# Altium integrated library ST Microcontroller 32-Bit ARM.IntLib: 73 symbols (part 1 of 5)
Pins are listed as number, name and electrical type; pins without a type are passive.

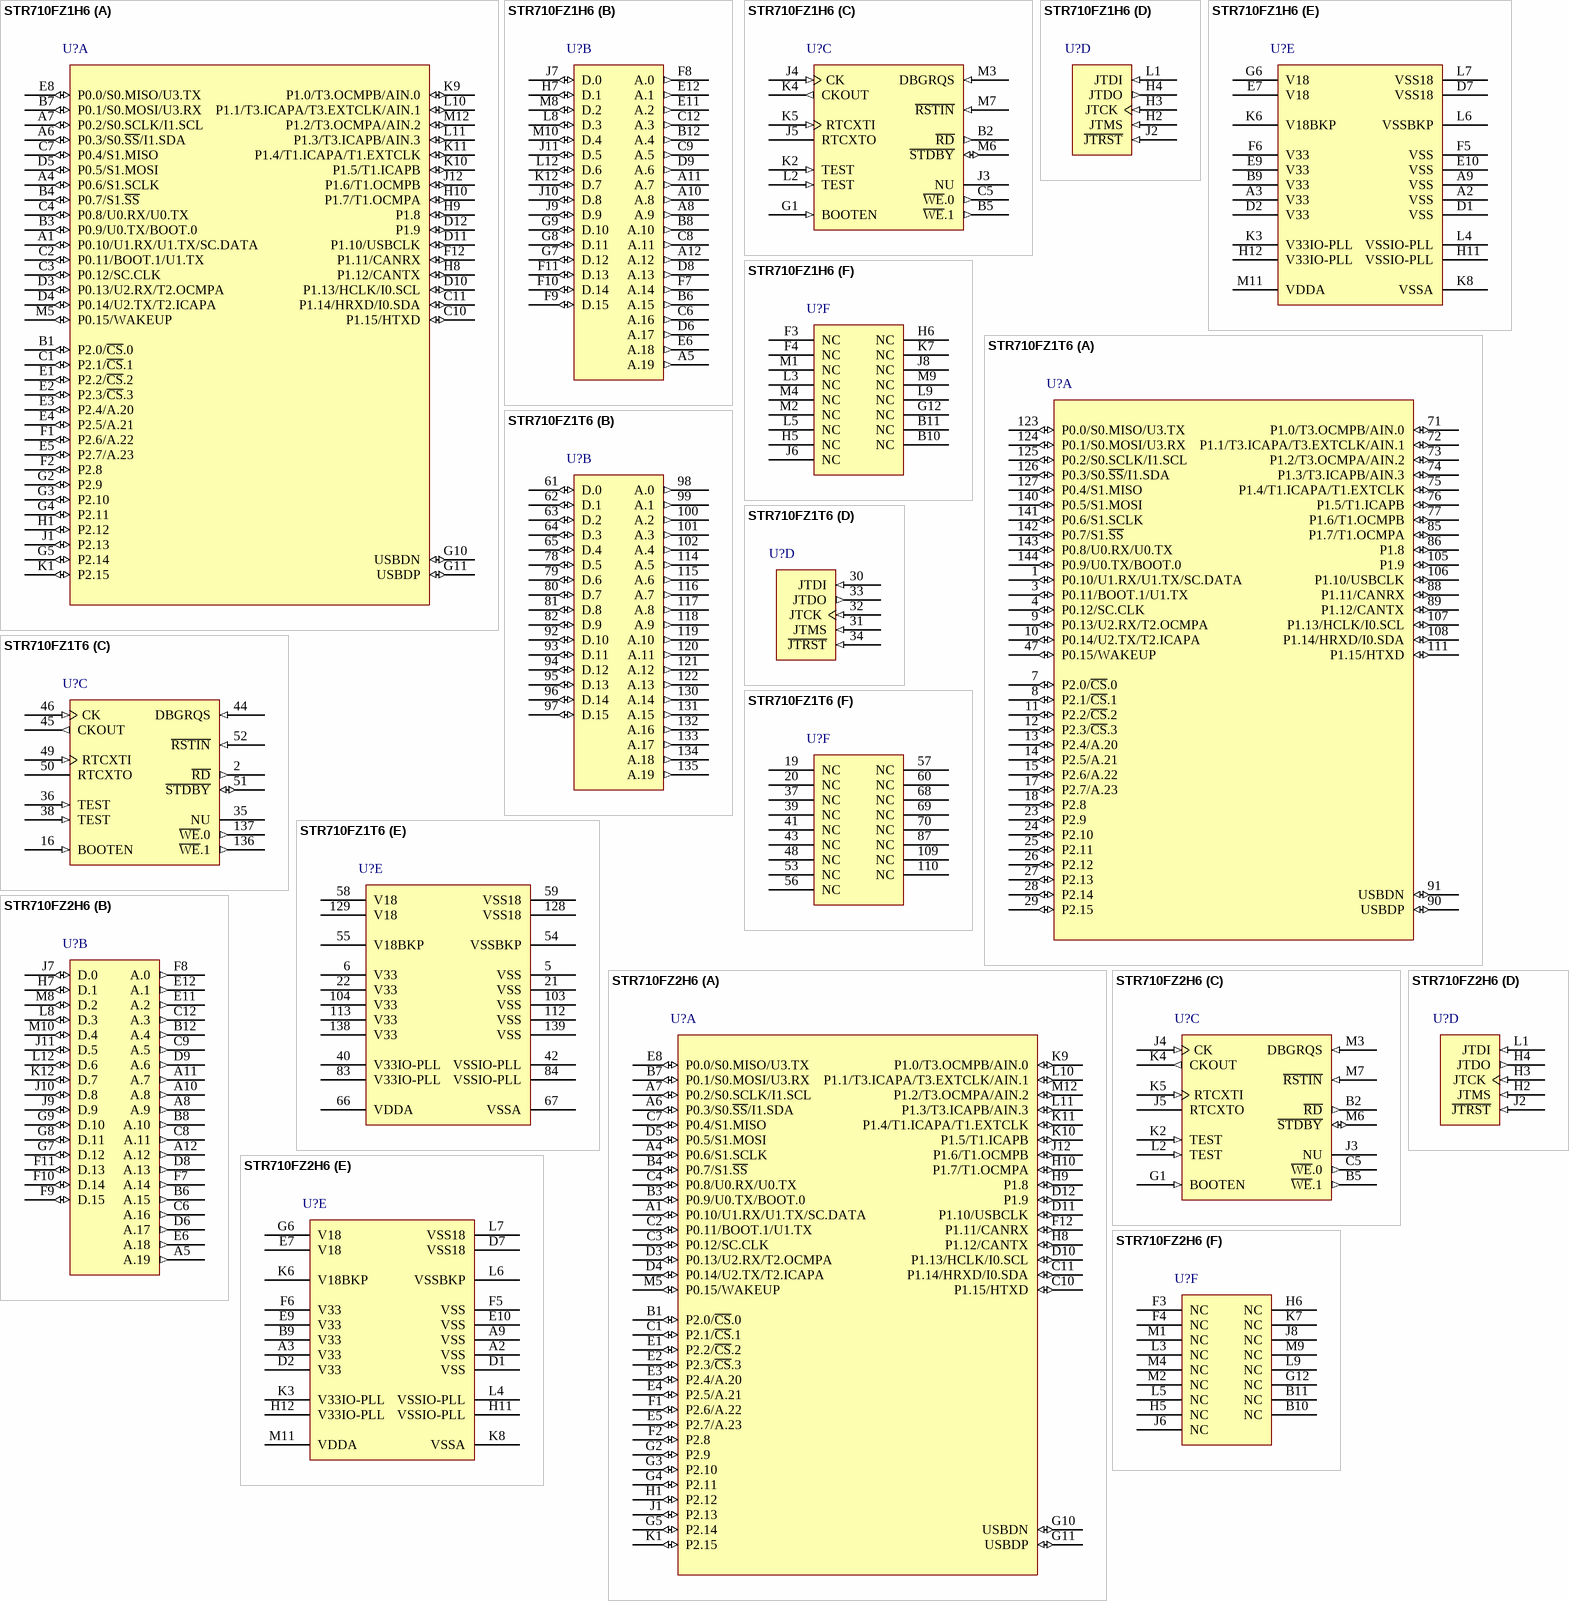
[diagram p0: symbols STR710FZ1H6 to STR710FZ2H6]

## STR710FZ1H6
designator U?
ARM7TDMI-S 32-Bit RISC CPU, 128+16KB Flash Memory, 32KB RAM, 144-ball LFBGA, with EMI, USB & CAN Peripherals; Published: 12-Dec-2006; DatasheetVersion: rev9, Aug-2006; PackageVersion: Sep-2006; PackageReference: LFBGA144; Publisher: Altium Limited; PackageDescription: 144-Ball Low Profile Fine Pitch Ball Grid Array; ComponentLink1Description: Manufacturer Link; ComponentLink1URL: http://www.st.com/; ComponentLink2Description: Datasheet; ComponentLink2URL: http://www.st.com/stonline/books/pdf/docs/10350.pdf
footprint LFBGA144 (BGA, 144-Leads, Body 10x10mm, Pitch 0.8mm)
part A pins: A1 P0.10/U1.RX/U1.TX/SC.DATA (io), A4 P0.6/S1.SCLK (io), A6 P0.3/S0.~{SS}/I1.SDA (io), A7 P0.2/S0.SCLK/I1.SCL (io), B1 P2.0/~{CS}.0 (io), B3 P0.9/U0.TX/BOOT.0 (io), B4 P0.7/S1.~{SS} (io), B7 P0.1/S0.MOSI/U3.RX (io), C1 P2.1/~{CS}.1 (io), C2 P0.11/BOOT.1/U1.TX (io), C3 P0.12/SC.CLK (io), C4 P0.8/U0.RX/U0.TX (io), C7 P0.4/S1.MISO (io), C10 P1.15/HTXD (io), C11 P1.14/HRXD/I0.SDA (io), D3 P0.13/U2.RX/T2.OCMPA (io), D4 P0.14/U2.TX/T2.ICAPA (io), D5 P0.5/S1.MOSI (io), D10 P1.13/HCLK/I0.SCL (io), D11 P1.10/USBCLK (io), D12 P1.9 (io), E1 P2.2/~{CS}.2 (io), E2 P2.3/~{CS}.3 (io), E3 P2.4/A.20 (io), E4 P2.5/A.21 (io), E5 P2.7/A.23 (io), E8 P0.0/S0.MISO/U3.TX (io), F1 P2.6/A.22 (io), F2 P2.8 (io), F12 P1.11/CANRX (io), G2 P2.9 (io), G3 P2.10 (io), G4 P2.11 (io), G5 P2.14 (io), G10 USBDN (io), G11 USBDP (io), H1 P2.12 (io), H8 P1.12/CANTX (io), H9 P1.8 (io), H10 P1.7/T1.OCMPA (io), J1 P2.13 (io), J12 P1.6/T1.OCMPB (io), K1 P2.15 (io), K9 P1.0/T3.OCMPB/AIN.0 (io), K10 P1.5/T1.ICAPB (io), K11 P1.4/T1.ICAPA/T1.EXTCLK (io), L10 P1.1/T3.ICAPA/T3.EXTCLK/AIN.1 (io), L11 P1.3/T3.ICAPB/AIN.3 (io), M5 P0.15/WAKEUP (io), M12 P1.2/T3.OCMPA/AIN.2 (io)
part B pins: A5 A.19 (out), A8 A.9 (out), A10 A.8 (out), A11 A.7 (out), A12 A.12 (out), B6 A.15 (out), B8 A.10 (out), B12 A.4 (out), C6 A.16 (out), C8 A.11 (out), C9 A.5 (out), C12 A.3 (out), D6 A.17 (out), D8 A.13 (out), D9 A.6 (out), E6 A.18 (out), E11 A.2 (out), E12 A.1 (out), F7 A.14 (out), F8 A.0 (out), F9 D.15 (io), F10 D.14 (io), F11 D.13 (io), G7 D.12 (io), G8 D.11 (io), G9 D.10 (io), H7 D.1 (io), J7 D.0 (io), J9 D.9 (io), J10 D.8 (io), J11 D.5 (io), K12 D.7 (io), L8 D.3 (io), L12 D.6 (io), M8 D.2 (io), M10 D.4 (io)
part C pins: B2 ~{RD} (out), B5 ~{WE}.1 (out), C5 ~{WE}.0 (out), G1 BOOTEN (in), J3 NU, J4 CK (in), J5 RTCXTO, K2 TEST (in), K4 CKOUT (out), K5 RTCXTI (in), L2 TEST (in), M3 DBGRQS (in), M6 ~{STDBY} (io), M7 ~{RSTIN} (in)
part D pins: H2 JTMS (in), H3 JTCK (in), H4 JTDO (out), J2 ~{JTRST} (in), L1 JTDI (in)
part E pins: A2 VSS (power), A3 V33 (power), A9 VSS (power), B9 V33 (power), D1 VSS (power), D2 V33 (power), D7 VSS18 (power), E7 V18 (power), E9 V33 (power), E10 VSS (power), F5 VSS (power), F6 V33 (power), G6 V18 (power), H11 VSSIO-PLL (power), H12 V33IO-PLL (power), K3 V33IO-PLL (power), K6 V18BKP (power), K8 VSSA (power), L4 VSSIO-PLL (power), L6 VSSBKP (power), L7 VSS18 (power), M11 VDDA (power)
part F pins: B10 NC, B11 NC, F3 NC, F4 NC, G12 NC, H5 NC, H6 NC, J6 NC, J8 NC, K7 NC, L3 NC, L5 NC, L9 NC, M1 NC, M2 NC, M4 NC, M9 NC

## STR710FZ1T6
designator U?
ARM7TDMI-S 32-Bit RISC CPU, 128+16KB Flash Memory, 32KB RAM, 144-pin TQFP, with EMI, USB & CAN Peripherals; Published: 12-Dec-2006; DatasheetVersion: rev9, Aug-2006; PackageVersion: Mar-2003; PackageReference: TQFP144; Publisher: Altium Limited; PackageDescription: 144-Pin Thin Quad Flat Pack 0.5 mm Pitch; ComponentLink1Description: Manufacturer Link; ComponentLink1URL: http://www.st.com/; ComponentLink2Description: Datasheet; ComponentLink2URL: http://www.st.com/stonline/books/pdf/docs/10350.pdf
footprint TQFP144_N (Thin QFP, 144-Leads, Body 20x20mm, Pitch 0.5mm, IPC Medium Density)
footprint TQFP144_L (Thin QFP, 144-Leads, Body 20x20mm, Pitch 0.5mm, IPC High Density)
footprint TQFP144_M (Thin QFP, 144-Leads, Body 20x20mm, Pitch 0.5mm, IPC Low Density)
part A pins: 1 P0.10/U1.RX/U1.TX/SC.DATA (io), 3 P0.11/BOOT.1/U1.TX (io), 4 P0.12/SC.CLK (io), 7 P2.0/~{CS}.0 (io), 8 P2.1/~{CS}.1 (io), 9 P0.13/U2.RX/T2.OCMPA (io), 10 P0.14/U2.TX/T2.ICAPA (io), 11 P2.2/~{CS}.2 (io), 12 P2.3/~{CS}.3 (io), 13 P2.4/A.20 (io), 14 P2.5/A.21 (io), 15 P2.6/A.22 (io), 17 P2.7/A.23 (io), 18 P2.8 (io), 23 P2.9 (io), 24 P2.10 (io), 25 P2.11 (io), 26 P2.12 (io), 27 P2.13 (io), 28 P2.14 (io), 29 P2.15 (io), 47 P0.15/WAKEUP (io), 71 P1.0/T3.OCMPB/AIN.0 (io), 72 P1.1/T3.ICAPA/T3.EXTCLK/AIN.1 (io), 73 P1.2/T3.OCMPA/AIN.2 (io), 74 P1.3/T3.ICAPB/AIN.3 (io), 75 P1.4/T1.ICAPA/T1.EXTCLK (io), 76 P1.5/T1.ICAPB (io), 77 P1.6/T1.OCMPB (io), 85 P1.7/T1.OCMPA (io), 86 P1.8 (io), 88 P1.11/CANRX (io), 89 P1.12/CANTX (io), 90 USBDP (io), 91 USBDN (io), 105 P1.9 (io), 106 P1.10/USBCLK (io), 107 P1.13/HCLK/I0.SCL (io), 108 P1.14/HRXD/I0.SDA (io), 111 P1.15/HTXD (io), 123 P0.0/S0.MISO/U3.TX (io), 124 P0.1/S0.MOSI/U3.RX (io), 125 P0.2/S0.SCLK/I1.SCL (io), 126 P0.3/S0.~{SS}/I1.SDA (io), 127 P0.4/S1.MISO (io), 140 P0.5/S1.MOSI (io), 141 P0.6/S1.SCLK (io), 142 P0.7/S1.~{SS} (io), 143 P0.8/U0.RX/U0.TX (io), 144 P0.9/U0.TX/BOOT.0 (io)
part B pins: 61 D.0 (io), 62 D.1 (io), 63 D.2 (io), 64 D.3 (io), 65 D.4 (io), 78 D.5 (io), 79 D.6 (io), 80 D.7 (io), 81 D.8 (io), 82 D.9 (io), 92 D.10 (io), 93 D.11 (io), 94 D.12 (io), 95 D.13 (io), 96 D.14 (io), 97 D.15 (io), 98 A.0 (out), 99 A.1 (out), 100 A.2 (out), 101 A.3 (out), 102 A.4 (out), 114 A.5 (out), 115 A.6 (out), 116 A.7 (out), 117 A.8 (out), 118 A.9 (out), 119 A.10 (out), 120 A.11 (out), 121 A.12 (out), 122 A.13 (out), 130 A.14 (out), 131 A.15 (out), 132 A.16 (out), 133 A.17 (out), 134 A.18 (out), 135 A.19 (out)
part C pins: 2 ~{RD} (out), 16 BOOTEN (in), 35 NU, 36 TEST (in), 38 TEST (in), 44 DBGRQS (in), 45 CKOUT (out), 46 CK (in), 49 RTCXTI (in), 50 RTCXTO, 51 ~{STDBY} (io), 52 ~{RSTIN} (in), 136 ~{WE}.1 (out), 137 ~{WE}.0 (out)
part D pins: 30 JTDI (in), 31 JTMS (in), 32 JTCK (in), 33 JTDO (out), 34 ~{JTRST} (in)
part E pins: 5 VSS (power), 6 V33 (power), 21 VSS (power), 22 V33 (power), 40 V33IO-PLL (power), 42 VSSIO-PLL (power), 54 VSSBKP (power), 55 V18BKP (power), 58 V18 (power), 59 VSS18 (power), 66 VDDA (power), 67 VSSA (power), 83 V33IO-PLL (power), 84 VSSIO-PLL (power), 103 VSS (power), 104 V33 (power), 112 VSS (power), 113 V33 (power), 128 VSS18 (power), 129 V18 (power), 138 V33 (power), 139 VSS (power)
part F pins: 19 NC, 20 NC, 37 NC, 39 NC, 41 NC, 43 NC, 48 NC, 53 NC, 56 NC, 57 NC, 60 NC, 68 NC, 69 NC, 70 NC, 87 NC, 109 NC, 110 NC

## STR710FZ2H6
designator U?
ARM7TDMI-S 32-Bit RISC CPU, 256+16KB Flash Memory, 64KB RAM, 144-ball LFBGA, with EMI, USB & CAN Peripherals; Published: 12-Dec-2006; DatasheetVersion: rev9, Aug-2006; PackageVersion: Sep-2006; PackageReference: LFBGA144; Publisher: Altium Limited; PackageDescription: 144-Ball Low Profile Fine Pitch Ball Grid Array; ComponentLink1Description: Manufacturer Link; ComponentLink1URL: http://www.st.com/; ComponentLink2Description: Datasheet; ComponentLink2URL: http://www.st.com/stonline/books/pdf/docs/10350.pdf
footprint LFBGA144 (BGA, 144-Leads, Body 10x10mm, Pitch 0.8mm)
part A pins: A1 P0.10/U1.RX/U1.TX/SC.DATA (io), A4 P0.6/S1.SCLK (io), A6 P0.3/S0.~{SS}/I1.SDA (io), A7 P0.2/S0.SCLK/I1.SCL (io), B1 P2.0/~{CS}.0 (io), B3 P0.9/U0.TX/BOOT.0 (io), B4 P0.7/S1.~{SS} (io), B7 P0.1/S0.MOSI/U3.RX (io), C1 P2.1/~{CS}.1 (io), C2 P0.11/BOOT.1/U1.TX (io), C3 P0.12/SC.CLK (io), C4 P0.8/U0.RX/U0.TX (io), C7 P0.4/S1.MISO (io), C10 P1.15/HTXD (io), C11 P1.14/HRXD/I0.SDA (io), D3 P0.13/U2.RX/T2.OCMPA (io), D4 P0.14/U2.TX/T2.ICAPA (io), D5 P0.5/S1.MOSI (io), D10 P1.13/HCLK/I0.SCL (io), D11 P1.10/USBCLK (io), D12 P1.9 (io), E1 P2.2/~{CS}.2 (io), E2 P2.3/~{CS}.3 (io), E3 P2.4/A.20 (io), E4 P2.5/A.21 (io), E5 P2.7/A.23 (io), E8 P0.0/S0.MISO/U3.TX (io), F1 P2.6/A.22 (io), F2 P2.8 (io), F12 P1.11/CANRX (io), G2 P2.9 (io), G3 P2.10 (io), G4 P2.11 (io), G5 P2.14 (io), G10 USBDN (io), G11 USBDP (io), H1 P2.12 (io), H8 P1.12/CANTX (io), H9 P1.8 (io), H10 P1.7/T1.OCMPA (io), J1 P2.13 (io), J12 P1.6/T1.OCMPB (io), K1 P2.15 (io), K9 P1.0/T3.OCMPB/AIN.0 (io), K10 P1.5/T1.ICAPB (io), K11 P1.4/T1.ICAPA/T1.EXTCLK (io), L10 P1.1/T3.ICAPA/T3.EXTCLK/AIN.1 (io), L11 P1.3/T3.ICAPB/AIN.3 (io), M5 P0.15/WAKEUP (io), M12 P1.2/T3.OCMPA/AIN.2 (io)
part B pins: A5 A.19 (out), A8 A.9 (out), A10 A.8 (out), A11 A.7 (out), A12 A.12 (out), B6 A.15 (out), B8 A.10 (out), B12 A.4 (out), C6 A.16 (out), C8 A.11 (out), C9 A.5 (out), C12 A.3 (out), D6 A.17 (out), D8 A.13 (out), D9 A.6 (out), E6 A.18 (out), E11 A.2 (out), E12 A.1 (out), F7 A.14 (out), F8 A.0 (out), F9 D.15 (io), F10 D.14 (io), F11 D.13 (io), G7 D.12 (io), G8 D.11 (io), G9 D.10 (io), H7 D.1 (io), J7 D.0 (io), J9 D.9 (io), J10 D.8 (io), J11 D.5 (io), K12 D.7 (io), L8 D.3 (io), L12 D.6 (io), M8 D.2 (io), M10 D.4 (io)
part C pins: B2 ~{RD} (out), B5 ~{WE}.1 (out), C5 ~{WE}.0 (out), G1 BOOTEN (in), J3 NU, J4 CK (in), J5 RTCXTO, K2 TEST (in), K4 CKOUT (out), K5 RTCXTI (in), L2 TEST (in), M3 DBGRQS (in), M6 ~{STDBY} (io), M7 ~{RSTIN} (in)
part D pins: H2 JTMS (in), H3 JTCK (in), H4 JTDO (out), J2 ~{JTRST} (in), L1 JTDI (in)
part E pins: A2 VSS (power), A3 V33 (power), A9 VSS (power), B9 V33 (power), D1 VSS (power), D2 V33 (power), D7 VSS18 (power), E7 V18 (power), E9 V33 (power), E10 VSS (power), F5 VSS (power), F6 V33 (power), G6 V18 (power), H11 VSSIO-PLL (power), H12 V33IO-PLL (power), K3 V33IO-PLL (power), K6 V18BKP (power), K8 VSSA (power), L4 VSSIO-PLL (power), L6 VSSBKP (power), L7 VSS18 (power), M11 VDDA (power)
part F pins: B10 NC, B11 NC, F3 NC, F4 NC, G12 NC, H5 NC, H6 NC, J6 NC, J8 NC, K7 NC, L3 NC, L5 NC, L9 NC, M1 NC, M2 NC, M4 NC, M9 NC

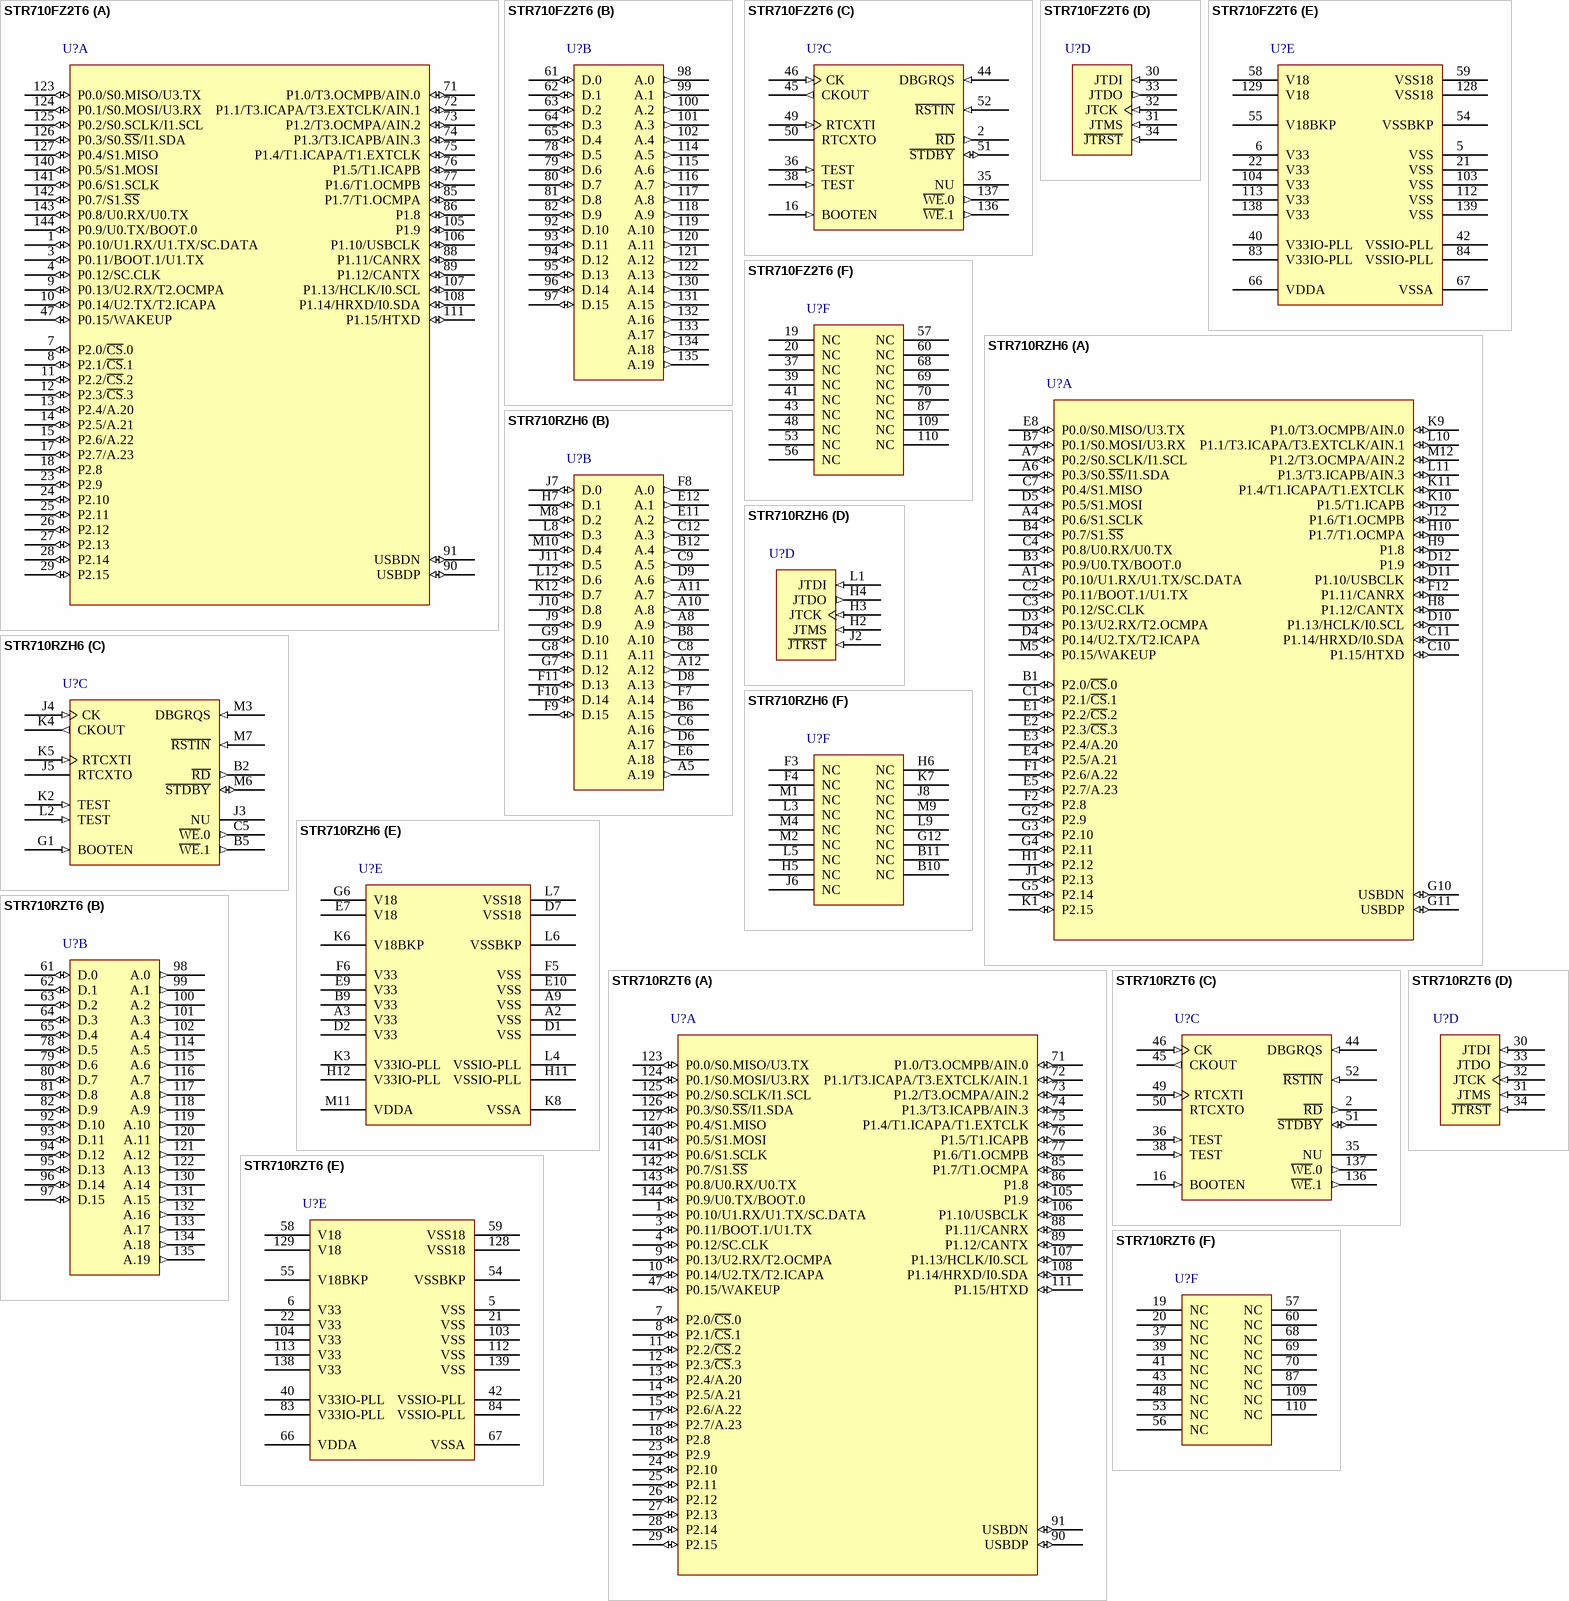
[diagram p1: symbols STR710FZ2T6 to STR710RZT6]

## STR710FZ2T6
designator U?
ARM7TDMI-S 32-Bit RISC CPU, 256+16KB Flash Memory, 64KB RAM, 144-pin TQFP, with EMI, USB & CAN Peripherals; Published: 12-Dec-2006; DatasheetVersion: rev9, Aug-2006; PackageVersion: Mar-2003; PackageReference: TQFP144; Publisher: Altium Limited; PackageDescription: 144-Pin Thin Quad Flat Pack 0.5 mm Pitch; ComponentLink1Description: Manufacturer Link; ComponentLink1URL: http://www.st.com/; ComponentLink2Description: Datasheet; ComponentLink2URL: http://www.st.com/stonline/books/pdf/docs/10350.pdf
footprint TQFP144_N (Thin QFP, 144-Leads, Body 20x20mm, Pitch 0.5mm, IPC Medium Density)
footprint TQFP144_L (Thin QFP, 144-Leads, Body 20x20mm, Pitch 0.5mm, IPC High Density)
footprint TQFP144_M (Thin QFP, 144-Leads, Body 20x20mm, Pitch 0.5mm, IPC Low Density)
part A pins: 1 P0.10/U1.RX/U1.TX/SC.DATA (io), 3 P0.11/BOOT.1/U1.TX (io), 4 P0.12/SC.CLK (io), 7 P2.0/~{CS}.0 (io), 8 P2.1/~{CS}.1 (io), 9 P0.13/U2.RX/T2.OCMPA (io), 10 P0.14/U2.TX/T2.ICAPA (io), 11 P2.2/~{CS}.2 (io), 12 P2.3/~{CS}.3 (io), 13 P2.4/A.20 (io), 14 P2.5/A.21 (io), 15 P2.6/A.22 (io), 17 P2.7/A.23 (io), 18 P2.8 (io), 23 P2.9 (io), 24 P2.10 (io), 25 P2.11 (io), 26 P2.12 (io), 27 P2.13 (io), 28 P2.14 (io), 29 P2.15 (io), 47 P0.15/WAKEUP (io), 71 P1.0/T3.OCMPB/AIN.0 (io), 72 P1.1/T3.ICAPA/T3.EXTCLK/AIN.1 (io), 73 P1.2/T3.OCMPA/AIN.2 (io), 74 P1.3/T3.ICAPB/AIN.3 (io), 75 P1.4/T1.ICAPA/T1.EXTCLK (io), 76 P1.5/T1.ICAPB (io), 77 P1.6/T1.OCMPB (io), 85 P1.7/T1.OCMPA (io), 86 P1.8 (io), 88 P1.11/CANRX (io), 89 P1.12/CANTX (io), 90 USBDP (io), 91 USBDN (io), 105 P1.9 (io), 106 P1.10/USBCLK (io), 107 P1.13/HCLK/I0.SCL (io), 108 P1.14/HRXD/I0.SDA (io), 111 P1.15/HTXD (io), 123 P0.0/S0.MISO/U3.TX (io), 124 P0.1/S0.MOSI/U3.RX (io), 125 P0.2/S0.SCLK/I1.SCL (io), 126 P0.3/S0.~{SS}/I1.SDA (io), 127 P0.4/S1.MISO (io), 140 P0.5/S1.MOSI (io), 141 P0.6/S1.SCLK (io), 142 P0.7/S1.~{SS} (io), 143 P0.8/U0.RX/U0.TX (io), 144 P0.9/U0.TX/BOOT.0 (io)
part B pins: 61 D.0 (io), 62 D.1 (io), 63 D.2 (io), 64 D.3 (io), 65 D.4 (io), 78 D.5 (io), 79 D.6 (io), 80 D.7 (io), 81 D.8 (io), 82 D.9 (io), 92 D.10 (io), 93 D.11 (io), 94 D.12 (io), 95 D.13 (io), 96 D.14 (io), 97 D.15 (io), 98 A.0 (out), 99 A.1 (out), 100 A.2 (out), 101 A.3 (out), 102 A.4 (out), 114 A.5 (out), 115 A.6 (out), 116 A.7 (out), 117 A.8 (out), 118 A.9 (out), 119 A.10 (out), 120 A.11 (out), 121 A.12 (out), 122 A.13 (out), 130 A.14 (out), 131 A.15 (out), 132 A.16 (out), 133 A.17 (out), 134 A.18 (out), 135 A.19 (out)
part C pins: 2 ~{RD} (out), 16 BOOTEN (in), 35 NU, 36 TEST (in), 38 TEST (in), 44 DBGRQS (in), 45 CKOUT (out), 46 CK (in), 49 RTCXTI (in), 50 RTCXTO, 51 ~{STDBY} (io), 52 ~{RSTIN} (in), 136 ~{WE}.1 (out), 137 ~{WE}.0 (out)
part D pins: 30 JTDI (in), 31 JTMS (in), 32 JTCK (in), 33 JTDO (out), 34 ~{JTRST} (in)
part E pins: 5 VSS (power), 6 V33 (power), 21 VSS (power), 22 V33 (power), 40 V33IO-PLL (power), 42 VSSIO-PLL (power), 54 VSSBKP (power), 55 V18BKP (power), 58 V18 (power), 59 VSS18 (power), 66 VDDA (power), 67 VSSA (power), 83 V33IO-PLL (power), 84 VSSIO-PLL (power), 103 VSS (power), 104 V33 (power), 112 VSS (power), 113 V33 (power), 128 VSS18 (power), 129 V18 (power), 138 V33 (power), 139 VSS (power)
part F pins: 19 NC, 20 NC, 37 NC, 39 NC, 41 NC, 43 NC, 48 NC, 53 NC, 56 NC, 57 NC, 60 NC, 68 NC, 69 NC, 70 NC, 87 NC, 109 NC, 110 NC

## STR710RZH6
designator U?
ARM7TDMI-S 32-Bit RISC CPU, 64KB RAM, 144-ball LFBGA, with EMI, USB & CAN Peripherals; Published: 12-Dec-2006; DatasheetVersion: rev9, Aug-2006; PackageVersion: Sep-2006; PackageReference: LFBGA144; Publisher: Altium Limited; PackageDescription: 144-Ball Low Profile Fine Pitch Ball Grid Array; ComponentLink1Description: Manufacturer Link; ComponentLink1URL: http://www.st.com/; ComponentLink2Description: Datasheet; ComponentLink2URL: http://www.st.com/stonline/books/pdf/docs/10350.pdf
footprint LFBGA144 (BGA, 144-Leads, Body 10x10mm, Pitch 0.8mm)
part A pins: A1 P0.10/U1.RX/U1.TX/SC.DATA (io), A4 P0.6/S1.SCLK (io), A6 P0.3/S0.~{SS}/I1.SDA (io), A7 P0.2/S0.SCLK/I1.SCL (io), B1 P2.0/~{CS}.0 (io), B3 P0.9/U0.TX/BOOT.0 (io), B4 P0.7/S1.~{SS} (io), B7 P0.1/S0.MOSI/U3.RX (io), C1 P2.1/~{CS}.1 (io), C2 P0.11/BOOT.1/U1.TX (io), C3 P0.12/SC.CLK (io), C4 P0.8/U0.RX/U0.TX (io), C7 P0.4/S1.MISO (io), C10 P1.15/HTXD (io), C11 P1.14/HRXD/I0.SDA (io), D3 P0.13/U2.RX/T2.OCMPA (io), D4 P0.14/U2.TX/T2.ICAPA (io), D5 P0.5/S1.MOSI (io), D10 P1.13/HCLK/I0.SCL (io), D11 P1.10/USBCLK (io), D12 P1.9 (io), E1 P2.2/~{CS}.2 (io), E2 P2.3/~{CS}.3 (io), E3 P2.4/A.20 (io), E4 P2.5/A.21 (io), E5 P2.7/A.23 (io), E8 P0.0/S0.MISO/U3.TX (io), F1 P2.6/A.22 (io), F2 P2.8 (io), F12 P1.11/CANRX (io), G2 P2.9 (io), G3 P2.10 (io), G4 P2.11 (io), G5 P2.14 (io), G10 USBDN (io), G11 USBDP (io), H1 P2.12 (io), H8 P1.12/CANTX (io), H9 P1.8 (io), H10 P1.7/T1.OCMPA (io), J1 P2.13 (io), J12 P1.6/T1.OCMPB (io), K1 P2.15 (io), K9 P1.0/T3.OCMPB/AIN.0 (io), K10 P1.5/T1.ICAPB (io), K11 P1.4/T1.ICAPA/T1.EXTCLK (io), L10 P1.1/T3.ICAPA/T3.EXTCLK/AIN.1 (io), L11 P1.3/T3.ICAPB/AIN.3 (io), M5 P0.15/WAKEUP (io), M12 P1.2/T3.OCMPA/AIN.2 (io)
part B pins: A5 A.19 (out), A8 A.9 (out), A10 A.8 (out), A11 A.7 (out), A12 A.12 (out), B6 A.15 (out), B8 A.10 (out), B12 A.4 (out), C6 A.16 (out), C8 A.11 (out), C9 A.5 (out), C12 A.3 (out), D6 A.17 (out), D8 A.13 (out), D9 A.6 (out), E6 A.18 (out), E11 A.2 (out), E12 A.1 (out), F7 A.14 (out), F8 A.0 (out), F9 D.15 (io), F10 D.14 (io), F11 D.13 (io), G7 D.12 (io), G8 D.11 (io), G9 D.10 (io), H7 D.1 (io), J7 D.0 (io), J9 D.9 (io), J10 D.8 (io), J11 D.5 (io), K12 D.7 (io), L8 D.3 (io), L12 D.6 (io), M8 D.2 (io), M10 D.4 (io)
part C pins: B2 ~{RD} (out), B5 ~{WE}.1 (out), C5 ~{WE}.0 (out), G1 BOOTEN (in), J3 NU, J4 CK (in), J5 RTCXTO, K2 TEST (in), K4 CKOUT (out), K5 RTCXTI (in), L2 TEST (in), M3 DBGRQS (in), M6 ~{STDBY} (io), M7 ~{RSTIN} (in)
part D pins: H2 JTMS (in), H3 JTCK (in), H4 JTDO (out), J2 ~{JTRST} (in), L1 JTDI (in)
part E pins: A2 VSS (power), A3 V33 (power), A9 VSS (power), B9 V33 (power), D1 VSS (power), D2 V33 (power), D7 VSS18 (power), E7 V18 (power), E9 V33 (power), E10 VSS (power), F5 VSS (power), F6 V33 (power), G6 V18 (power), H11 VSSIO-PLL (power), H12 V33IO-PLL (power), K3 V33IO-PLL (power), K6 V18BKP (power), K8 VSSA (power), L4 VSSIO-PLL (power), L6 VSSBKP (power), L7 VSS18 (power), M11 VDDA (power)
part F pins: B10 NC, B11 NC, F3 NC, F4 NC, G12 NC, H5 NC, H6 NC, J6 NC, J8 NC, K7 NC, L3 NC, L5 NC, L9 NC, M1 NC, M2 NC, M4 NC, M9 NC

## STR710RZT6
designator U?
ARM7TDMI-S 32-Bit RISC CPU, 64KB RAM, 144-pin TQFP, with EMI, USB & CAN Peripherals; Published: 12-Dec-2006; DatasheetVersion: rev9, Aug-2006; PackageVersion: Mar-2003; PackageReference: TQFP144; Publisher: Altium Limited; PackageDescription: 144-Pin Thin Quad Flat Pack 0.5 mm Pitch; ComponentLink1Description: Manufacturer Link; ComponentLink1URL: http://www.st.com/; ComponentLink2Description: Datasheet; ComponentLink2URL: http://www.st.com/stonline/books/pdf/docs/10350.pdf
footprint TQFP144_N (Thin QFP, 144-Leads, Body 20x20mm, Pitch 0.5mm, IPC Medium Density)
footprint TQFP144_L (Thin QFP, 144-Leads, Body 20x20mm, Pitch 0.5mm, IPC High Density)
footprint TQFP144_M (Thin QFP, 144-Leads, Body 20x20mm, Pitch 0.5mm, IPC Low Density)
part A pins: 1 P0.10/U1.RX/U1.TX/SC.DATA (io), 3 P0.11/BOOT.1/U1.TX (io), 4 P0.12/SC.CLK (io), 7 P2.0/~{CS}.0 (io), 8 P2.1/~{CS}.1 (io), 9 P0.13/U2.RX/T2.OCMPA (io), 10 P0.14/U2.TX/T2.ICAPA (io), 11 P2.2/~{CS}.2 (io), 12 P2.3/~{CS}.3 (io), 13 P2.4/A.20 (io), 14 P2.5/A.21 (io), 15 P2.6/A.22 (io), 17 P2.7/A.23 (io), 18 P2.8 (io), 23 P2.9 (io), 24 P2.10 (io), 25 P2.11 (io), 26 P2.12 (io), 27 P2.13 (io), 28 P2.14 (io), 29 P2.15 (io), 47 P0.15/WAKEUP (io), 71 P1.0/T3.OCMPB/AIN.0 (io), 72 P1.1/T3.ICAPA/T3.EXTCLK/AIN.1 (io), 73 P1.2/T3.OCMPA/AIN.2 (io), 74 P1.3/T3.ICAPB/AIN.3 (io), 75 P1.4/T1.ICAPA/T1.EXTCLK (io), 76 P1.5/T1.ICAPB (io), 77 P1.6/T1.OCMPB (io), 85 P1.7/T1.OCMPA (io), 86 P1.8 (io), 88 P1.11/CANRX (io), 89 P1.12/CANTX (io), 90 USBDP (io), 91 USBDN (io), 105 P1.9 (io), 106 P1.10/USBCLK (io), 107 P1.13/HCLK/I0.SCL (io), 108 P1.14/HRXD/I0.SDA (io), 111 P1.15/HTXD (io), 123 P0.0/S0.MISO/U3.TX (io), 124 P0.1/S0.MOSI/U3.RX (io), 125 P0.2/S0.SCLK/I1.SCL (io), 126 P0.3/S0.~{SS}/I1.SDA (io), 127 P0.4/S1.MISO (io), 140 P0.5/S1.MOSI (io), 141 P0.6/S1.SCLK (io), 142 P0.7/S1.~{SS} (io), 143 P0.8/U0.RX/U0.TX (io), 144 P0.9/U0.TX/BOOT.0 (io)
part B pins: 61 D.0 (io), 62 D.1 (io), 63 D.2 (io), 64 D.3 (io), 65 D.4 (io), 78 D.5 (io), 79 D.6 (io), 80 D.7 (io), 81 D.8 (io), 82 D.9 (io), 92 D.10 (io), 93 D.11 (io), 94 D.12 (io), 95 D.13 (io), 96 D.14 (io), 97 D.15 (io), 98 A.0 (out), 99 A.1 (out), 100 A.2 (out), 101 A.3 (out), 102 A.4 (out), 114 A.5 (out), 115 A.6 (out), 116 A.7 (out), 117 A.8 (out), 118 A.9 (out), 119 A.10 (out), 120 A.11 (out), 121 A.12 (out), 122 A.13 (out), 130 A.14 (out), 131 A.15 (out), 132 A.16 (out), 133 A.17 (out), 134 A.18 (out), 135 A.19 (out)
part C pins: 2 ~{RD} (out), 16 BOOTEN (in), 35 NU, 36 TEST (in), 38 TEST (in), 44 DBGRQS (in), 45 CKOUT (out), 46 CK (in), 49 RTCXTI (in), 50 RTCXTO, 51 ~{STDBY} (io), 52 ~{RSTIN} (in), 136 ~{WE}.1 (out), 137 ~{WE}.0 (out)
part D pins: 30 JTDI (in), 31 JTMS (in), 32 JTCK (in), 33 JTDO (out), 34 ~{JTRST} (in)
part E pins: 5 VSS (power), 6 V33 (power), 21 VSS (power), 22 V33 (power), 40 V33IO-PLL (power), 42 VSSIO-PLL (power), 54 VSSBKP (power), 55 V18BKP (power), 58 V18 (power), 59 VSS18 (power), 66 VDDA (power), 67 VSSA (power), 83 V33IO-PLL (power), 84 VSSIO-PLL (power), 103 VSS (power), 104 V33 (power), 112 VSS (power), 113 V33 (power), 128 VSS18 (power), 129 V18 (power), 138 V33 (power), 139 VSS (power)
part F pins: 19 NC, 20 NC, 37 NC, 39 NC, 41 NC, 43 NC, 48 NC, 53 NC, 56 NC, 57 NC, 60 NC, 68 NC, 69 NC, 70 NC, 87 NC, 109 NC, 110 NC

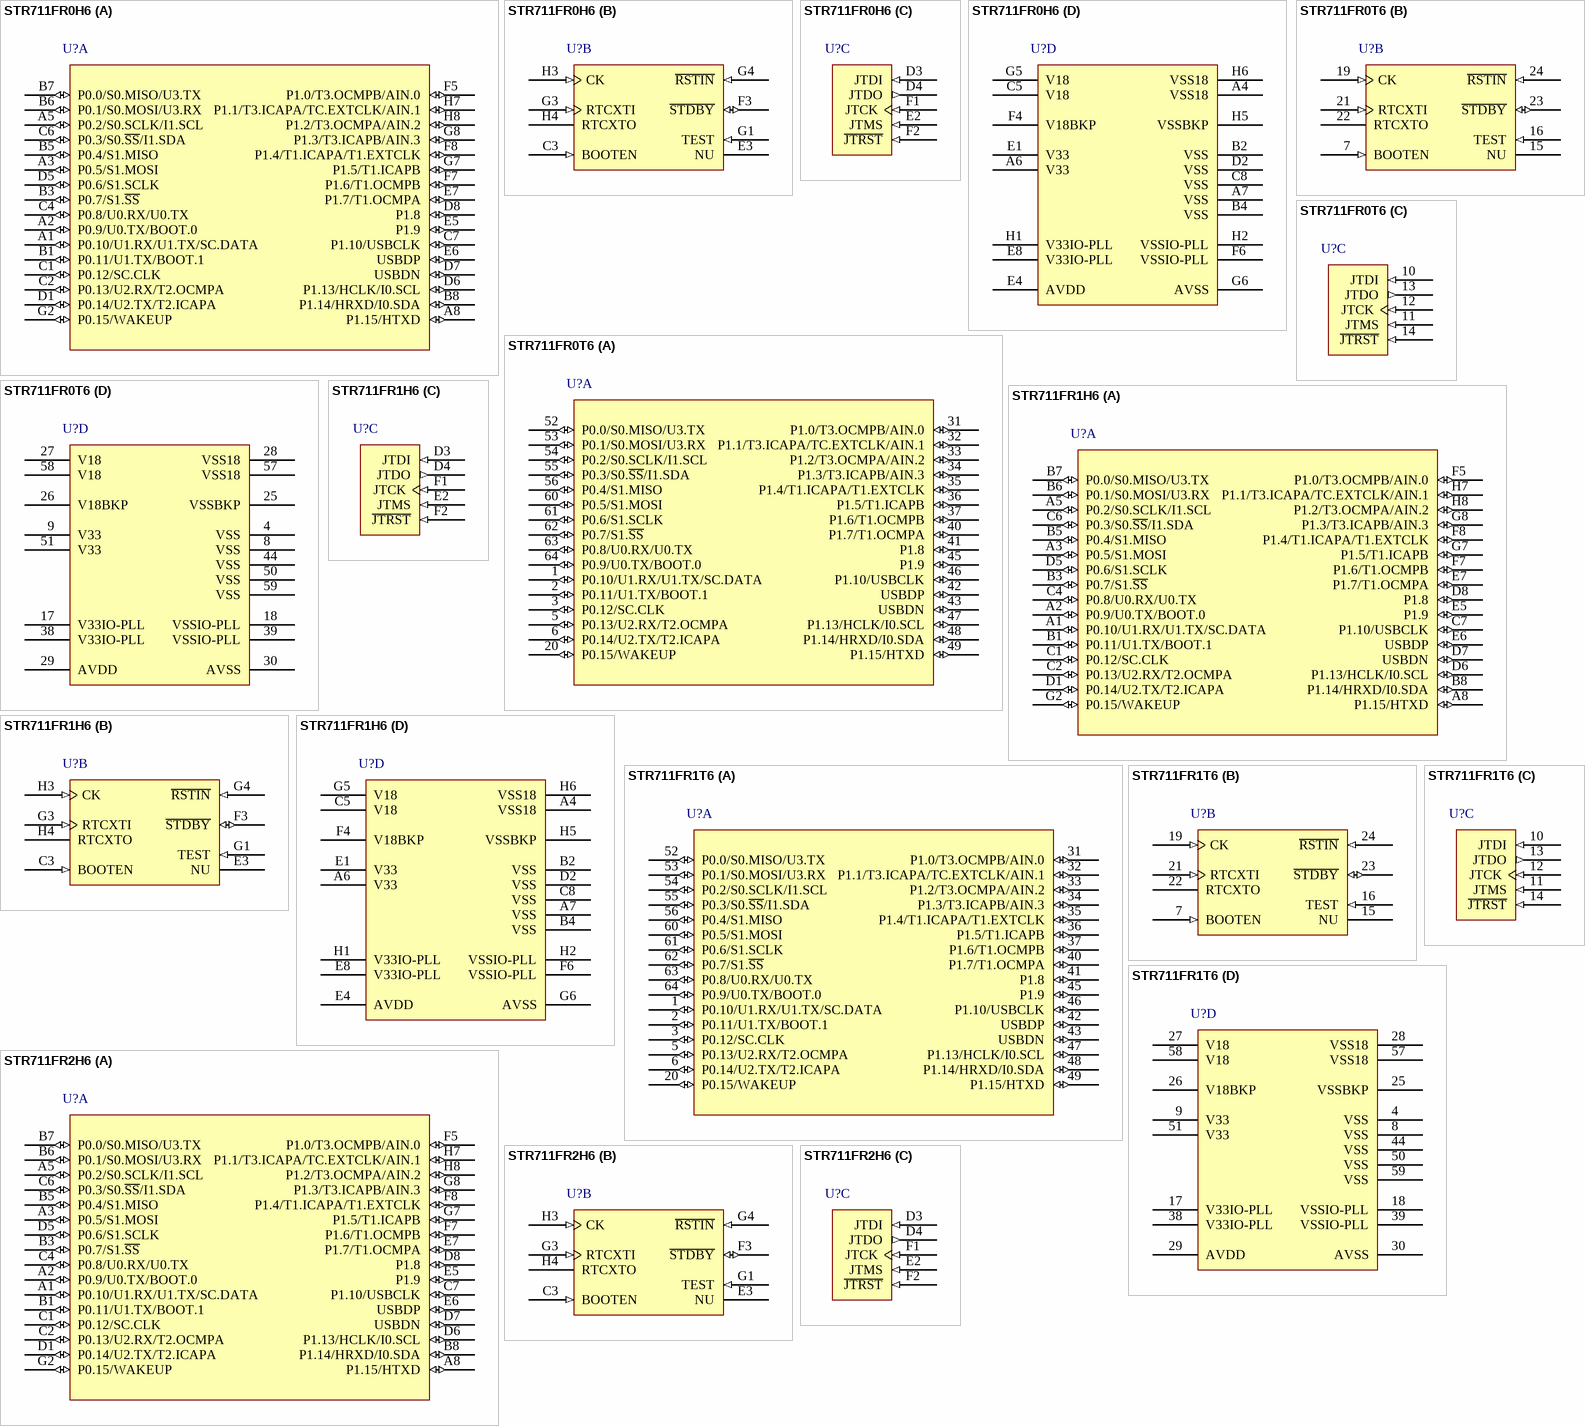
[diagram p2: symbols STR711FR0H6 to STR711FR2H6]

## STR711FR0H6
designator U?
ARM7TDMI-S 32-Bit RISC CPU, 64+16KB Flash Memory, 16KB RAM, 64-ball LFBGA, with USB Peripherals; Published: 12-Dec-2006; DatasheetVersion: rev9, Aug-2006; PackageVersion: Sep-2006; PackageReference: LFBGA64; Publisher: Altium Limited; PackageDescription: 64-Ball Low Profile Fine Pitch Ball Grid Array; ComponentLink1Description: Manufacturer Link; ComponentLink1URL: http://www.st.com/; ComponentLink2Description: Datasheet; ComponentLink2URL: http://www.st.com/stonline/books/pdf/docs/10350.pdf
footprint LFBGA64 (BGA, 64-Leads, Body 8x8mm, Pitch 0.8mm)
part A pins: A1 P0.10/U1.RX/U1.TX/SC.DATA (io), A2 P0.9/U0.TX/BOOT.0 (io), A3 P0.5/S1.MOSI (io), A5 P0.2/S0.SCLK/I1.SCL (io), A8 P1.15/HTXD (io), B1 P0.11/U1.TX/BOOT.1 (io), B3 P0.7/S1.~{SS} (io), B5 P0.4/S1.MISO (io), B6 P0.1/S0.MOSI/U3.RX (io), B7 P0.0/S0.MISO/U3.TX (io), B8 P1.14/HRXD/I0.SDA (io), C1 P0.12/SC.CLK (io), C2 P0.13/U2.RX/T2.OCMPA (io), C4 P0.8/U0.RX/U0.TX (io), C6 P0.3/S0.~{SS}/I1.SDA (io), C7 P1.10/USBCLK (io), D1 P0.14/U2.TX/T2.ICAPA (io), D5 P0.6/S1.SCLK (io), D6 P1.13/HCLK/I0.SCL (io), D7 USBDN (io), D8 P1.8 (io), E5 P1.9 (io), E6 USBDP (io), E7 P1.7/T1.OCMPA (io), F5 P1.0/T3.OCMPB/AIN.0 (io), F7 P1.6/T1.OCMPB (io), F8 P1.4/T1.ICAPA/T1.EXTCLK (io), G2 P0.15/WAKEUP (io), G7 P1.5/T1.ICAPB (io), G8 P1.3/T3.ICAPB/AIN.3 (io), H7 P1.1/T3.ICAPA/TC.EXTCLK/AIN.1 (io), H8 P1.2/T3.OCMPA/AIN.2 (io)
part B pins: C3 BOOTEN (in), E3 NU, F3 ~{STDBY} (io), G1 TEST (in), G3 RTCXTI (in), G4 ~{RSTIN} (in), H3 CK (in), H4 RTCXTO
part C pins: D3 JTDI (in), D4 JTDO (out), E2 JTMS (in), F1 JTCK (in), F2 ~{JTRST} (in)
part D pins: A4 VSS18 (power), A6 V33 (power), A7 VSS (power), B2 VSS (power), B4 VSS (power), C5 V18 (power), C8 VSS (power), D2 VSS (power), E1 V33 (power), E4 AVDD (power), E8 V33IO-PLL (power), F4 V18BKP (power), F6 VSSIO-PLL (power), G5 V18 (power), G6 AVSS (power), H1 V33IO-PLL (power), H2 VSSIO-PLL (power), H5 VSSBKP (power), H6 VSS18 (power)

## STR711FR0T6
designator U?
ARM7TDMI-S 32-Bit RISC CPU, 64+16KB Flash Memory, 16KB RAM, 64-pin LQFP, with USB Peripherals; Published: 12-Dec-2006; DatasheetVersion: rev9, Aug-2006; PackageVersion: Jun-2003; PackageReference: TQFP64; Publisher: Altium Limited; PackageDescription: 64-Pin Thin Quad Flat Pack 0.5 mm Pitch; Code_JEDEC: MS-026; ComponentLink1Description: Manufacturer Link; ComponentLink1URL: http://www.st.com/; ComponentLink2Description: Datasheet; ComponentLink2URL: http://www.st.com/stonline/books/pdf/docs/10350.pdf
footprint TQFP64_N (Thin QFP, 64-Leads, Body 10x10mm, Pitch 0.5mm, IPC Medium Density)
footprint TQFP64_L (Thin QFP, 64-Leads, Body 10x10mm, Pitch 0.5mm, IPC High Density)
footprint TQFP64_M (Thin QFP, 64-Leads, Body 10x10mm, Pitch 0.5mm, IPC Low Density)
part A pins: 1 P0.10/U1.RX/U1.TX/SC.DATA (io), 2 P0.11/U1.TX/BOOT.1 (io), 3 P0.12/SC.CLK (io), 5 P0.13/U2.RX/T2.OCMPA (io), 6 P0.14/U2.TX/T2.ICAPA (io), 20 P0.15/WAKEUP (io), 31 P1.0/T3.OCMPB/AIN.0 (io), 32 P1.1/T3.ICAPA/TC.EXTCLK/AIN.1 (io), 33 P1.2/T3.OCMPA/AIN.2 (io), 34 P1.3/T3.ICAPB/AIN.3 (io), 35 P1.4/T1.ICAPA/T1.EXTCLK (io), 36 P1.5/T1.ICAPB (io), 37 P1.6/T1.OCMPB (io), 40 P1.7/T1.OCMPA (io), 41 P1.8 (io), 42 USBDP (io), 43 USBDN (io), 45 P1.9 (io), 46 P1.10/USBCLK (io), 47 P1.13/HCLK/I0.SCL (io), 48 P1.14/HRXD/I0.SDA (io), 49 P1.15/HTXD (io), 52 P0.0/S0.MISO/U3.TX (io), 53 P0.1/S0.MOSI/U3.RX (io), 54 P0.2/S0.SCLK/I1.SCL (io), 55 P0.3/S0.~{SS}/I1.SDA (io), 56 P0.4/S1.MISO (io), 60 P0.5/S1.MOSI (io), 61 P0.6/S1.SCLK (io), 62 P0.7/S1.~{SS} (io), 63 P0.8/U0.RX/U0.TX (io), 64 P0.9/U0.TX/BOOT.0 (io)
part B pins: 7 BOOTEN (in), 15 NU, 16 TEST (in), 19 CK (in), 21 RTCXTI (in), 22 RTCXTO, 23 ~{STDBY} (io), 24 ~{RSTIN} (in)
part C pins: 10 JTDI (in), 11 JTMS (in), 12 JTCK (in), 13 JTDO (out), 14 ~{JTRST} (in)
part D pins: 4 VSS (power), 8 VSS (power), 9 V33 (power), 17 V33IO-PLL (power), 18 VSSIO-PLL (power), 25 VSSBKP (power), 26 V18BKP (power), 27 V18 (power), 28 VSS18 (power), 29 AVDD (power), 30 AVSS (power), 38 V33IO-PLL (power), 39 VSSIO-PLL (power), 44 VSS (power), 50 VSS (power), 51 V33 (power), 57 VSS18 (power), 58 V18 (power), 59 VSS (power)

## STR711FR1H6
designator U?
ARM7TDMI-S 32-Bit RISC CPU, 128+16KB Flash Memory, 32KB RAM, 64-ball LFBGA, with USB Peripherals; Published: 12-Dec-2006; DatasheetVersion: rev9, Aug-2006; PackageVersion: Sep-2006; PackageReference: LFBGA64; Publisher: Altium Limited; PackageDescription: 64-Ball Low Profile Fine Pitch Ball Grid Array; ComponentLink1Description: Manufacturer Link; ComponentLink1URL: http://www.st.com/; ComponentLink2Description: Datasheet; ComponentLink2URL: http://www.st.com/stonline/books/pdf/docs/10350.pdf
footprint LFBGA64 (BGA, 64-Leads, Body 8x8mm, Pitch 0.8mm)
part A pins: A1 P0.10/U1.RX/U1.TX/SC.DATA (io), A2 P0.9/U0.TX/BOOT.0 (io), A3 P0.5/S1.MOSI (io), A5 P0.2/S0.SCLK/I1.SCL (io), A8 P1.15/HTXD (io), B1 P0.11/U1.TX/BOOT.1 (io), B3 P0.7/S1.~{SS} (io), B5 P0.4/S1.MISO (io), B6 P0.1/S0.MOSI/U3.RX (io), B7 P0.0/S0.MISO/U3.TX (io), B8 P1.14/HRXD/I0.SDA (io), C1 P0.12/SC.CLK (io), C2 P0.13/U2.RX/T2.OCMPA (io), C4 P0.8/U0.RX/U0.TX (io), C6 P0.3/S0.~{SS}/I1.SDA (io), C7 P1.10/USBCLK (io), D1 P0.14/U2.TX/T2.ICAPA (io), D5 P0.6/S1.SCLK (io), D6 P1.13/HCLK/I0.SCL (io), D7 USBDN (io), D8 P1.8 (io), E5 P1.9 (io), E6 USBDP (io), E7 P1.7/T1.OCMPA (io), F5 P1.0/T3.OCMPB/AIN.0 (io), F7 P1.6/T1.OCMPB (io), F8 P1.4/T1.ICAPA/T1.EXTCLK (io), G2 P0.15/WAKEUP (io), G7 P1.5/T1.ICAPB (io), G8 P1.3/T3.ICAPB/AIN.3 (io), H7 P1.1/T3.ICAPA/TC.EXTCLK/AIN.1 (io), H8 P1.2/T3.OCMPA/AIN.2 (io)
part B pins: C3 BOOTEN (in), E3 NU, F3 ~{STDBY} (io), G1 TEST (in), G3 RTCXTI (in), G4 ~{RSTIN} (in), H3 CK (in), H4 RTCXTO
part C pins: D3 JTDI (in), D4 JTDO (out), E2 JTMS (in), F1 JTCK (in), F2 ~{JTRST} (in)
part D pins: A4 VSS18 (power), A6 V33 (power), A7 VSS (power), B2 VSS (power), B4 VSS (power), C5 V18 (power), C8 VSS (power), D2 VSS (power), E1 V33 (power), E4 AVDD (power), E8 V33IO-PLL (power), F4 V18BKP (power), F6 VSSIO-PLL (power), G5 V18 (power), G6 AVSS (power), H1 V33IO-PLL (power), H2 VSSIO-PLL (power), H5 VSSBKP (power), H6 VSS18 (power)

## STR711FR1T6
designator U?
ARM7TDMI-S 32-Bit RISC CPU, 128+16KB Flash Memory, 32KB RAM, 64-pin LQFP, with USB Peripherals; Published: 12-Dec-2006; DatasheetVersion: rev9, Aug-2006; PackageVersion: Jun-2003; PackageReference: TQFP64; Publisher: Altium Limited; PackageDescription: 64-Pin Thin Quad Flat Pack 0.5 mm Pitch; Code_JEDEC: MS-026; ComponentLink1Description: Manufacturer Link; ComponentLink1URL: http://www.st.com/; ComponentLink2Description: Datasheet; ComponentLink2URL: http://www.st.com/stonline/books/pdf/docs/10350.pdf
footprint TQFP64_N (Thin QFP, 64-Leads, Body 10x10mm, Pitch 0.5mm, IPC Medium Density)
footprint TQFP64_L (Thin QFP, 64-Leads, Body 10x10mm, Pitch 0.5mm, IPC High Density)
footprint TQFP64_M (Thin QFP, 64-Leads, Body 10x10mm, Pitch 0.5mm, IPC Low Density)
part A pins: 1 P0.10/U1.RX/U1.TX/SC.DATA (io), 2 P0.11/U1.TX/BOOT.1 (io), 3 P0.12/SC.CLK (io), 5 P0.13/U2.RX/T2.OCMPA (io), 6 P0.14/U2.TX/T2.ICAPA (io), 20 P0.15/WAKEUP (io), 31 P1.0/T3.OCMPB/AIN.0 (io), 32 P1.1/T3.ICAPA/TC.EXTCLK/AIN.1 (io), 33 P1.2/T3.OCMPA/AIN.2 (io), 34 P1.3/T3.ICAPB/AIN.3 (io), 35 P1.4/T1.ICAPA/T1.EXTCLK (io), 36 P1.5/T1.ICAPB (io), 37 P1.6/T1.OCMPB (io), 40 P1.7/T1.OCMPA (io), 41 P1.8 (io), 42 USBDP (io), 43 USBDN (io), 45 P1.9 (io), 46 P1.10/USBCLK (io), 47 P1.13/HCLK/I0.SCL (io), 48 P1.14/HRXD/I0.SDA (io), 49 P1.15/HTXD (io), 52 P0.0/S0.MISO/U3.TX (io), 53 P0.1/S0.MOSI/U3.RX (io), 54 P0.2/S0.SCLK/I1.SCL (io), 55 P0.3/S0.~{SS}/I1.SDA (io), 56 P0.4/S1.MISO (io), 60 P0.5/S1.MOSI (io), 61 P0.6/S1.SCLK (io), 62 P0.7/S1.~{SS} (io), 63 P0.8/U0.RX/U0.TX (io), 64 P0.9/U0.TX/BOOT.0 (io)
part B pins: 7 BOOTEN (in), 15 NU, 16 TEST (in), 19 CK (in), 21 RTCXTI (in), 22 RTCXTO, 23 ~{STDBY} (io), 24 ~{RSTIN} (in)
part C pins: 10 JTDI (in), 11 JTMS (in), 12 JTCK (in), 13 JTDO (out), 14 ~{JTRST} (in)
part D pins: 4 VSS (power), 8 VSS (power), 9 V33 (power), 17 V33IO-PLL (power), 18 VSSIO-PLL (power), 25 VSSBKP (power), 26 V18BKP (power), 27 V18 (power), 28 VSS18 (power), 29 AVDD (power), 30 AVSS (power), 38 V33IO-PLL (power), 39 VSSIO-PLL (power), 44 VSS (power), 50 VSS (power), 51 V33 (power), 57 VSS18 (power), 58 V18 (power), 59 VSS (power)

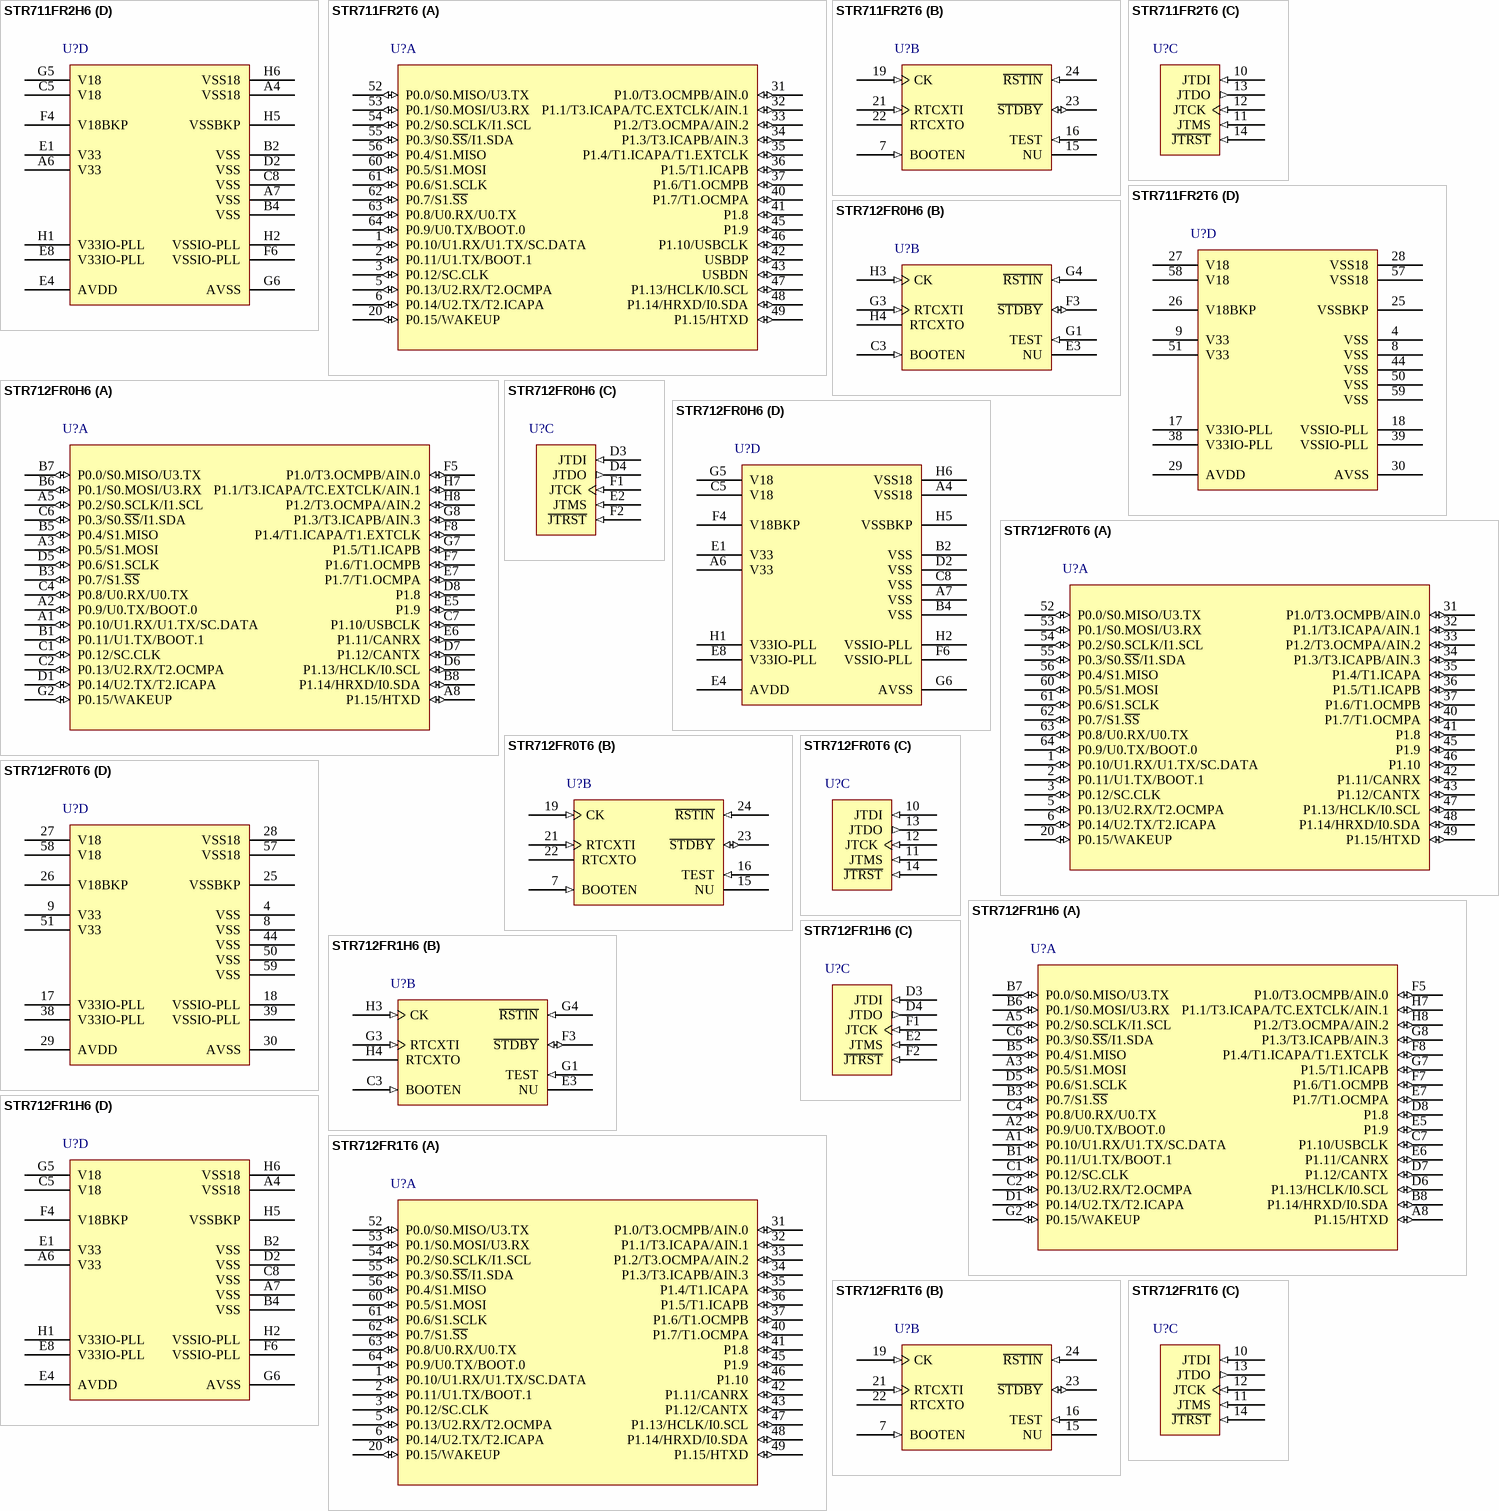
[diagram p3: symbols STR711FR2H6 to STR712FR1T6]

## STR711FR2H6
designator U?
ARM7TDMI-S 32-Bit RISC CPU, 256+16KB Flash Memory, 64KB RAM, 64-ball LFBGA, with USB Peripherals; Published: 12-Dec-2006; DatasheetVersion: rev9, Aug-2006; PackageVersion: Sep-2006; PackageReference: LFBGA64; Publisher: Altium Limited; PackageDescription: 64-Ball Low Profile Fine Pitch Ball Grid Array; ComponentLink1Description: Manufacturer Link; ComponentLink1URL: http://www.st.com/; ComponentLink2Description: Datasheet; ComponentLink2URL: http://www.st.com/stonline/books/pdf/docs/10350.pdf
footprint LFBGA64 (BGA, 64-Leads, Body 8x8mm, Pitch 0.8mm)
part A pins: A1 P0.10/U1.RX/U1.TX/SC.DATA (io), A2 P0.9/U0.TX/BOOT.0 (io), A3 P0.5/S1.MOSI (io), A5 P0.2/S0.SCLK/I1.SCL (io), A8 P1.15/HTXD (io), B1 P0.11/U1.TX/BOOT.1 (io), B3 P0.7/S1.~{SS} (io), B5 P0.4/S1.MISO (io), B6 P0.1/S0.MOSI/U3.RX (io), B7 P0.0/S0.MISO/U3.TX (io), B8 P1.14/HRXD/I0.SDA (io), C1 P0.12/SC.CLK (io), C2 P0.13/U2.RX/T2.OCMPA (io), C4 P0.8/U0.RX/U0.TX (io), C6 P0.3/S0.~{SS}/I1.SDA (io), C7 P1.10/USBCLK (io), D1 P0.14/U2.TX/T2.ICAPA (io), D5 P0.6/S1.SCLK (io), D6 P1.13/HCLK/I0.SCL (io), D7 USBDN (io), D8 P1.8 (io), E5 P1.9 (io), E6 USBDP (io), E7 P1.7/T1.OCMPA (io), F5 P1.0/T3.OCMPB/AIN.0 (io), F7 P1.6/T1.OCMPB (io), F8 P1.4/T1.ICAPA/T1.EXTCLK (io), G2 P0.15/WAKEUP (io), G7 P1.5/T1.ICAPB (io), G8 P1.3/T3.ICAPB/AIN.3 (io), H7 P1.1/T3.ICAPA/TC.EXTCLK/AIN.1 (io), H8 P1.2/T3.OCMPA/AIN.2 (io)
part B pins: C3 BOOTEN (in), E3 NU, F3 ~{STDBY} (io), G1 TEST (in), G3 RTCXTI (in), G4 ~{RSTIN} (in), H3 CK (in), H4 RTCXTO
part C pins: D3 JTDI (in), D4 JTDO (out), E2 JTMS (in), F1 JTCK (in), F2 ~{JTRST} (in)
part D pins: A4 VSS18 (power), A6 V33 (power), A7 VSS (power), B2 VSS (power), B4 VSS (power), C5 V18 (power), C8 VSS (power), D2 VSS (power), E1 V33 (power), E4 AVDD (power), E8 V33IO-PLL (power), F4 V18BKP (power), F6 VSSIO-PLL (power), G5 V18 (power), G6 AVSS (power), H1 V33IO-PLL (power), H2 VSSIO-PLL (power), H5 VSSBKP (power), H6 VSS18 (power)

## STR711FR2T6
designator U?
ARM7TDMI-S 32-Bit RISC CPU, 256+16KB Flash Memory, 64KB RAM, 64-pin LQFP, with USB Peripherals; Published: 12-Dec-2006; DatasheetVersion: rev9, Aug-2006; PackageVersion: Jun-2003; PackageReference: TQFP64; Publisher: Altium Limited; PackageDescription: 64-Pin Thin Quad Flat Pack 0.5 mm Pitch; Code_JEDEC: MS-026; ComponentLink1Description: Manufacturer Link; ComponentLink1URL: http://www.st.com/; ComponentLink2Description: Datasheet; ComponentLink2URL: http://www.st.com/stonline/books/pdf/docs/10350.pdf
footprint TQFP64_N (Thin QFP, 64-Leads, Body 10x10mm, Pitch 0.5mm, IPC Medium Density)
footprint TQFP64_L (Thin QFP, 64-Leads, Body 10x10mm, Pitch 0.5mm, IPC High Density)
footprint TQFP64_M (Thin QFP, 64-Leads, Body 10x10mm, Pitch 0.5mm, IPC Low Density)
part A pins: 1 P0.10/U1.RX/U1.TX/SC.DATA (io), 2 P0.11/U1.TX/BOOT.1 (io), 3 P0.12/SC.CLK (io), 5 P0.13/U2.RX/T2.OCMPA (io), 6 P0.14/U2.TX/T2.ICAPA (io), 20 P0.15/WAKEUP (io), 31 P1.0/T3.OCMPB/AIN.0 (io), 32 P1.1/T3.ICAPA/TC.EXTCLK/AIN.1 (io), 33 P1.2/T3.OCMPA/AIN.2 (io), 34 P1.3/T3.ICAPB/AIN.3 (io), 35 P1.4/T1.ICAPA/T1.EXTCLK (io), 36 P1.5/T1.ICAPB (io), 37 P1.6/T1.OCMPB (io), 40 P1.7/T1.OCMPA (io), 41 P1.8 (io), 42 USBDP (io), 43 USBDN (io), 45 P1.9 (io), 46 P1.10/USBCLK (io), 47 P1.13/HCLK/I0.SCL (io), 48 P1.14/HRXD/I0.SDA (io), 49 P1.15/HTXD (io), 52 P0.0/S0.MISO/U3.TX (io), 53 P0.1/S0.MOSI/U3.RX (io), 54 P0.2/S0.SCLK/I1.SCL (io), 55 P0.3/S0.~{SS}/I1.SDA (io), 56 P0.4/S1.MISO (io), 60 P0.5/S1.MOSI (io), 61 P0.6/S1.SCLK (io), 62 P0.7/S1.~{SS} (io), 63 P0.8/U0.RX/U0.TX (io), 64 P0.9/U0.TX/BOOT.0 (io)
part B pins: 7 BOOTEN (in), 15 NU, 16 TEST (in), 19 CK (in), 21 RTCXTI (in), 22 RTCXTO, 23 ~{STDBY} (io), 24 ~{RSTIN} (in)
part C pins: 10 JTDI (in), 11 JTMS (in), 12 JTCK (in), 13 JTDO (out), 14 ~{JTRST} (in)
part D pins: 4 VSS (power), 8 VSS (power), 9 V33 (power), 17 V33IO-PLL (power), 18 VSSIO-PLL (power), 25 VSSBKP (power), 26 V18BKP (power), 27 V18 (power), 28 VSS18 (power), 29 AVDD (power), 30 AVSS (power), 38 V33IO-PLL (power), 39 VSSIO-PLL (power), 44 VSS (power), 50 VSS (power), 51 V33 (power), 57 VSS18 (power), 58 V18 (power), 59 VSS (power)

## STR712FR0H6
designator U?
ARM7TDMI-S 32-Bit RISC CPU, 64+16KB Flash Memory, 16KB RAM, 64-ball LFBGA, with CAN Peripherals; Published: 12-Dec-2006; DatasheetVersion: rev9, Aug-2006; PackageVersion: Sep-2006; PackageReference: LFBGA64; Publisher: Altium Limited; PackageDescription: 64-Ball Low Profile Fine Pitch Ball Grid Array; ComponentLink1Description: Manufacturer Link; ComponentLink1URL: http://www.st.com/; ComponentLink2Description: Datasheet; ComponentLink2URL: http://www.st.com/stonline/books/pdf/docs/10350.pdf
footprint LFBGA64 (BGA, 64-Leads, Body 8x8mm, Pitch 0.8mm)
part A pins: A1 P0.10/U1.RX/U1.TX/SC.DATA (io), A2 P0.9/U0.TX/BOOT.0 (io), A3 P0.5/S1.MOSI (io), A5 P0.2/S0.SCLK/I1.SCL (io), A8 P1.15/HTXD (io), B1 P0.11/U1.TX/BOOT.1 (io), B3 P0.7/S1.~{SS} (io), B5 P0.4/S1.MISO (io), B6 P0.1/S0.MOSI/U3.RX (io), B7 P0.0/S0.MISO/U3.TX (io), B8 P1.14/HRXD/I0.SDA (io), C1 P0.12/SC.CLK (io), C2 P0.13/U2.RX/T2.OCMPA (io), C4 P0.8/U0.RX/U0.TX (io), C6 P0.3/S0.~{SS}/I1.SDA (io), C7 P1.10/USBCLK (io), D1 P0.14/U2.TX/T2.ICAPA (io), D5 P0.6/S1.SCLK (io), D6 P1.13/HCLK/I0.SCL (io), D7 P1.12/CANTX (io), D8 P1.8 (io), E5 P1.9 (io), E6 P1.11/CANRX (io), E7 P1.7/T1.OCMPA (io), F5 P1.0/T3.OCMPB/AIN.0 (io), F7 P1.6/T1.OCMPB (io), F8 P1.4/T1.ICAPA/T1.EXTCLK (io), G2 P0.15/WAKEUP (io), G7 P1.5/T1.ICAPB (io), G8 P1.3/T3.ICAPB/AIN.3 (io), H7 P1.1/T3.ICAPA/TC.EXTCLK/AIN.1 (io), H8 P1.2/T3.OCMPA/AIN.2 (io)
part B pins: C3 BOOTEN (in), E3 NU, F3 ~{STDBY} (io), G1 TEST (in), G3 RTCXTI (in), G4 ~{RSTIN} (in), H3 CK (in), H4 RTCXTO
part C pins: D3 JTDI (in), D4 JTDO (out), E2 JTMS (in), F1 JTCK (in), F2 ~{JTRST} (in)
part D pins: A4 VSS18 (power), A6 V33 (power), A7 VSS (power), B2 VSS (power), B4 VSS (power), C5 V18 (power), C8 VSS (power), D2 VSS (power), E1 V33 (power), E4 AVDD (power), E8 V33IO-PLL (power), F4 V18BKP (power), F6 VSSIO-PLL (power), G5 V18 (power), G6 AVSS (power), H1 V33IO-PLL (power), H2 VSSIO-PLL (power), H5 VSSBKP (power), H6 VSS18 (power)

## STR712FR0T6
designator U?
ARM7TDMI-S 32-Bit RISC CPU, 64+16KB Flash Memory, 16KB RAM, 64-pin LQFP, with CAN Peripherals; Published: 12-Dec-2006; DatasheetVersion: rev9, Aug-2006; PackageVersion: Jun-2003; PackageReference: TQFP64; Publisher: Altium Limited; PackageDescription: 64-Pin Thin Quad Flat Pack 0.5 mm Pitch; Code_JEDEC: MS-026; ComponentLink1Description: Manufacturer Link; ComponentLink1URL: http://www.st.com/; ComponentLink2Description: Datasheet; ComponentLink2URL: http://www.st.com/stonline/books/pdf/docs/10350.pdf
footprint TQFP64_N (Thin QFP, 64-Leads, Body 10x10mm, Pitch 0.5mm, IPC Medium Density)
footprint TQFP64_L (Thin QFP, 64-Leads, Body 10x10mm, Pitch 0.5mm, IPC High Density)
footprint TQFP64_M (Thin QFP, 64-Leads, Body 10x10mm, Pitch 0.5mm, IPC Low Density)
part A pins: 1 P0.10/U1.RX/U1.TX/SC.DATA (io), 2 P0.11/U1.TX/BOOT.1 (io), 3 P0.12/SC.CLK (io), 5 P0.13/U2.RX/T2.OCMPA (io), 6 P0.14/U2.TX/T2.ICAPA (io), 20 P0.15/WAKEUP (io), 31 P1.0/T3.OCMPB/AIN.0 (io), 32 P1.1/T3.ICAPA/AIN.1 (io), 33 P1.2/T3.OCMPA/AIN.2 (io), 34 P1.3/T3.ICAPB/AIN.3 (io), 35 P1.4/T1.ICAPA (io), 36 P1.5/T1.ICAPB (io), 37 P1.6/T1.OCMPB (io), 40 P1.7/T1.OCMPA (io), 41 P1.8 (io), 42 P1.11/CANRX (io), 43 P1.12/CANTX (io), 45 P1.9 (io), 46 P1.10 (io), 47 P1.13/HCLK/I0.SCL (io), 48 P1.14/HRXD/I0.SDA (io), 49 P1.15/HTXD (io), 52 P0.0/S0.MISO/U3.TX (io), 53 P0.1/S0.MOSI/U3.RX (io), 54 P0.2/S0.SCLK/I1.SCL (io), 55 P0.3/S0.~{SS}/I1.SDA (io), 56 P0.4/S1.MISO (io), 60 P0.5/S1.MOSI (io), 61 P0.6/S1.SCLK (io), 62 P0.7/S1.~{SS} (io), 63 P0.8/U0.RX/U0.TX (io), 64 P0.9/U0.TX/BOOT.0 (io)
part B pins: 7 BOOTEN (in), 15 NU, 16 TEST (in), 19 CK (in), 21 RTCXTI (in), 22 RTCXTO, 23 ~{STDBY} (io), 24 ~{RSTIN} (in)
part C pins: 10 JTDI (in), 11 JTMS (in), 12 JTCK (in), 13 JTDO (out), 14 ~{JTRST} (in)
part D pins: 4 VSS (power), 8 VSS (power), 9 V33 (power), 17 V33IO-PLL (power), 18 VSSIO-PLL (power), 25 VSSBKP (power), 26 V18BKP (power), 27 V18 (power), 28 VSS18 (power), 29 AVDD (power), 30 AVSS (power), 38 V33IO-PLL (power), 39 VSSIO-PLL (power), 44 VSS (power), 50 VSS (power), 51 V33 (power), 57 VSS18 (power), 58 V18 (power), 59 VSS (power)

## STR712FR1H6
designator U?
ARM7TDMI-S 32-Bit RISC CPU, 128+16KB Flash Memory, 32KB RAM, 64-ball LFBGA, with CAN Peripherals; Published: 12-Dec-2006; DatasheetVersion: rev9, Aug-2006; PackageVersion: Sep-2006; PackageReference: LFBGA64; Publisher: Altium Limited; PackageDescription: 64-Ball Low Profile Fine Pitch Ball Grid Array; ComponentLink1Description: Manufacturer Link; ComponentLink1URL: http://www.st.com/; ComponentLink2Description: Datasheet; ComponentLink2URL: http://www.st.com/stonline/books/pdf/docs/10350.pdf
footprint LFBGA64 (BGA, 64-Leads, Body 8x8mm, Pitch 0.8mm)
part A pins: A1 P0.10/U1.RX/U1.TX/SC.DATA (io), A2 P0.9/U0.TX/BOOT.0 (io), A3 P0.5/S1.MOSI (io), A5 P0.2/S0.SCLK/I1.SCL (io), A8 P1.15/HTXD (io), B1 P0.11/U1.TX/BOOT.1 (io), B3 P0.7/S1.~{SS} (io), B5 P0.4/S1.MISO (io), B6 P0.1/S0.MOSI/U3.RX (io), B7 P0.0/S0.MISO/U3.TX (io), B8 P1.14/HRXD/I0.SDA (io), C1 P0.12/SC.CLK (io), C2 P0.13/U2.RX/T2.OCMPA (io), C4 P0.8/U0.RX/U0.TX (io), C6 P0.3/S0.~{SS}/I1.SDA (io), C7 P1.10/USBCLK (io), D1 P0.14/U2.TX/T2.ICAPA (io), D5 P0.6/S1.SCLK (io), D6 P1.13/HCLK/I0.SCL (io), D7 P1.12/CANTX (io), D8 P1.8 (io), E5 P1.9 (io), E6 P1.11/CANRX (io), E7 P1.7/T1.OCMPA (io), F5 P1.0/T3.OCMPB/AIN.0 (io), F7 P1.6/T1.OCMPB (io), F8 P1.4/T1.ICAPA/T1.EXTCLK (io), G2 P0.15/WAKEUP (io), G7 P1.5/T1.ICAPB (io), G8 P1.3/T3.ICAPB/AIN.3 (io), H7 P1.1/T3.ICAPA/TC.EXTCLK/AIN.1 (io), H8 P1.2/T3.OCMPA/AIN.2 (io)
part B pins: C3 BOOTEN (in), E3 NU, F3 ~{STDBY} (io), G1 TEST (in), G3 RTCXTI (in), G4 ~{RSTIN} (in), H3 CK (in), H4 RTCXTO
part C pins: D3 JTDI (in), D4 JTDO (out), E2 JTMS (in), F1 JTCK (in), F2 ~{JTRST} (in)
part D pins: A4 VSS18 (power), A6 V33 (power), A7 VSS (power), B2 VSS (power), B4 VSS (power), C5 V18 (power), C8 VSS (power), D2 VSS (power), E1 V33 (power), E4 AVDD (power), E8 V33IO-PLL (power), F4 V18BKP (power), F6 VSSIO-PLL (power), G5 V18 (power), G6 AVSS (power), H1 V33IO-PLL (power), H2 VSSIO-PLL (power), H5 VSSBKP (power), H6 VSS18 (power)

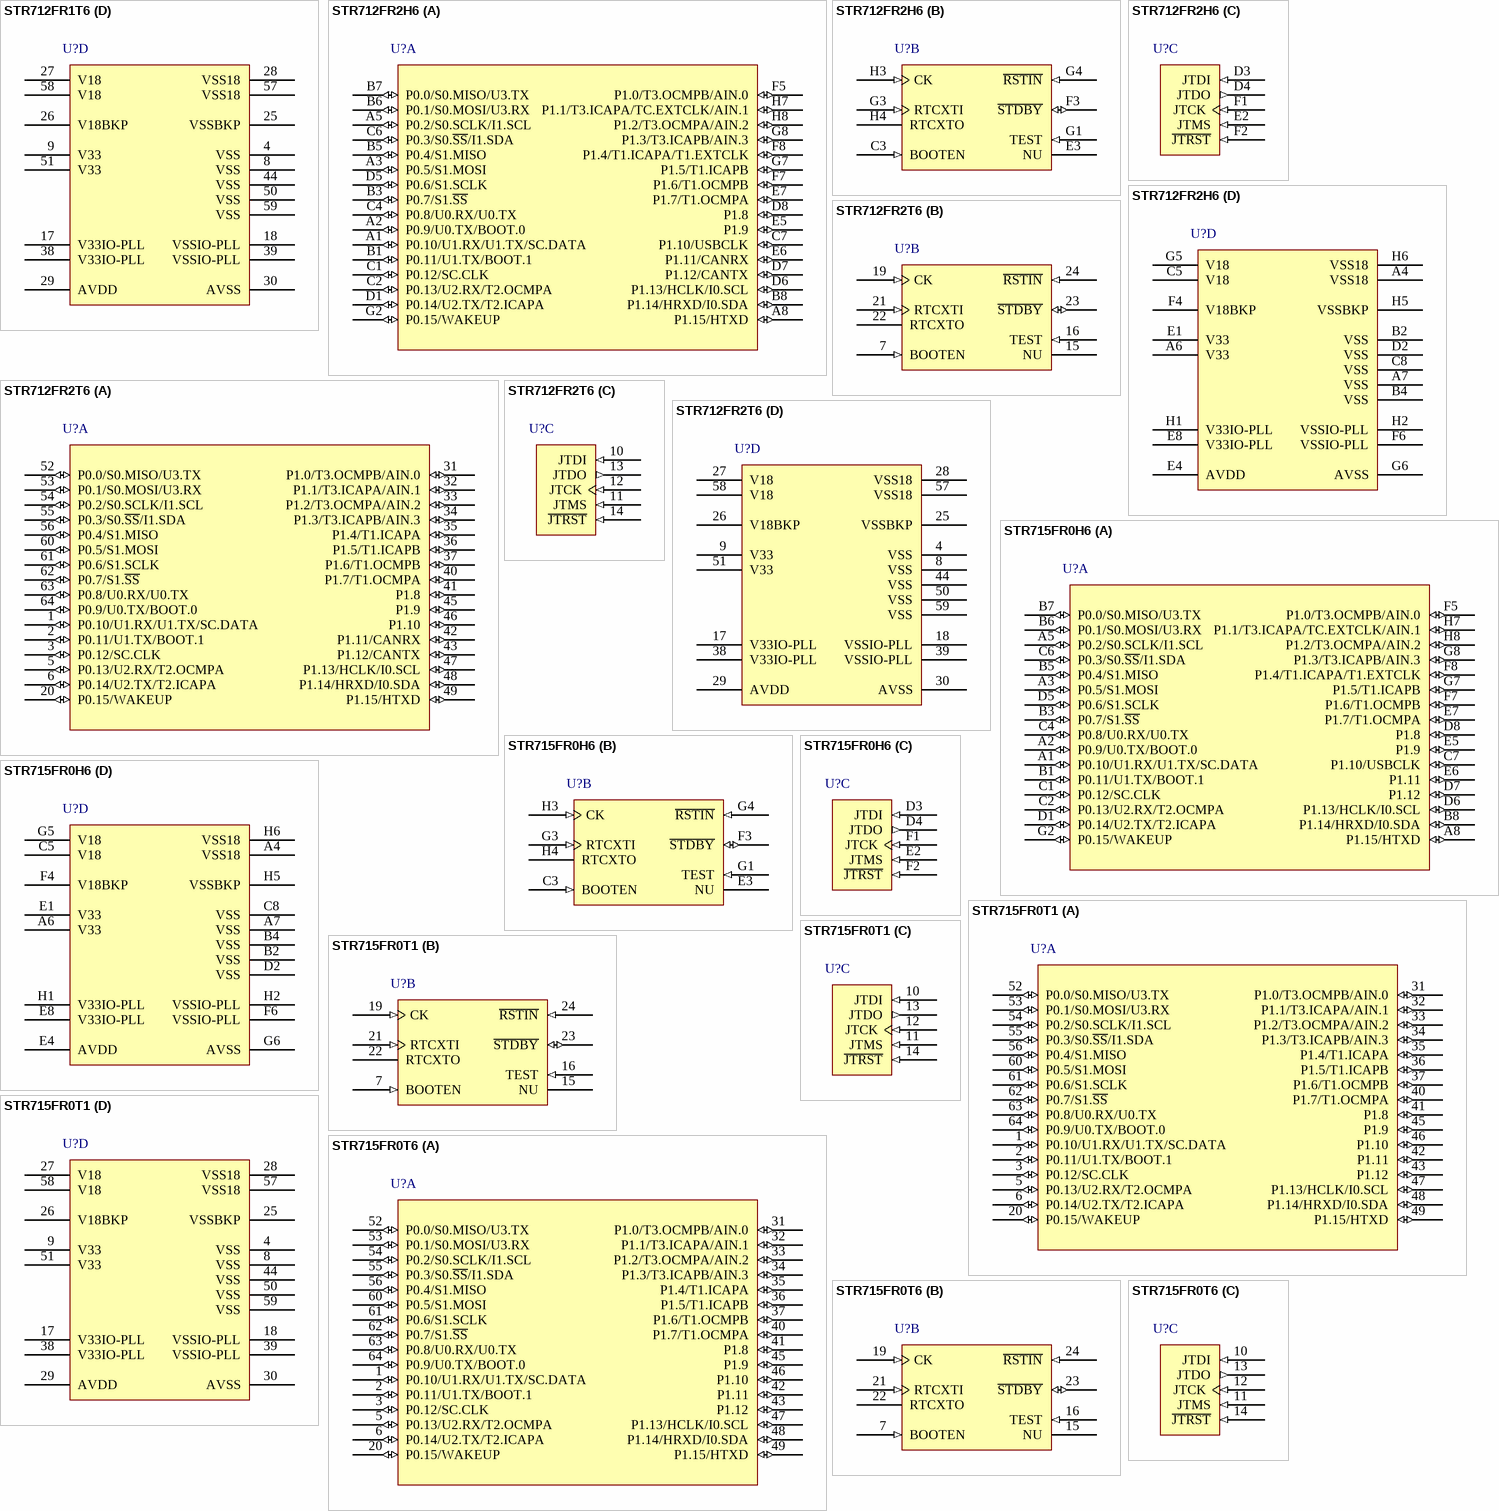
[diagram p4: symbols STR712FR1T6 to STR715FR0T6]

## STR712FR1T6
designator U?
ARM7TDMI-S 32-Bit RISC CPU, 128+16KB Flash Memory, 32KB RAM, 64-pin LQFP, with CAN Peripherals; Published: 12-Dec-2006; DatasheetVersion: rev9, Aug-2006; PackageVersion: Jun-2003; PackageReference: TQFP64; Publisher: Altium Limited; PackageDescription: 64-Pin Thin Quad Flat Pack 0.5 mm Pitch; Code_JEDEC: MS-026; ComponentLink1Description: Manufacturer Link; ComponentLink1URL: http://www.st.com/; ComponentLink2Description: Datasheet; ComponentLink2URL: http://www.st.com/stonline/books/pdf/docs/10350.pdf
footprint TQFP64_N (Thin QFP, 64-Leads, Body 10x10mm, Pitch 0.5mm, IPC Medium Density)
footprint TQFP64_L (Thin QFP, 64-Leads, Body 10x10mm, Pitch 0.5mm, IPC High Density)
footprint TQFP64_M (Thin QFP, 64-Leads, Body 10x10mm, Pitch 0.5mm, IPC Low Density)
part A pins: 1 P0.10/U1.RX/U1.TX/SC.DATA (io), 2 P0.11/U1.TX/BOOT.1 (io), 3 P0.12/SC.CLK (io), 5 P0.13/U2.RX/T2.OCMPA (io), 6 P0.14/U2.TX/T2.ICAPA (io), 20 P0.15/WAKEUP (io), 31 P1.0/T3.OCMPB/AIN.0 (io), 32 P1.1/T3.ICAPA/AIN.1 (io), 33 P1.2/T3.OCMPA/AIN.2 (io), 34 P1.3/T3.ICAPB/AIN.3 (io), 35 P1.4/T1.ICAPA (io), 36 P1.5/T1.ICAPB (io), 37 P1.6/T1.OCMPB (io), 40 P1.7/T1.OCMPA (io), 41 P1.8 (io), 42 P1.11/CANRX (io), 43 P1.12/CANTX (io), 45 P1.9 (io), 46 P1.10 (io), 47 P1.13/HCLK/I0.SCL (io), 48 P1.14/HRXD/I0.SDA (io), 49 P1.15/HTXD (io), 52 P0.0/S0.MISO/U3.TX (io), 53 P0.1/S0.MOSI/U3.RX (io), 54 P0.2/S0.SCLK/I1.SCL (io), 55 P0.3/S0.~{SS}/I1.SDA (io), 56 P0.4/S1.MISO (io), 60 P0.5/S1.MOSI (io), 61 P0.6/S1.SCLK (io), 62 P0.7/S1.~{SS} (io), 63 P0.8/U0.RX/U0.TX (io), 64 P0.9/U0.TX/BOOT.0 (io)
part B pins: 7 BOOTEN (in), 15 NU, 16 TEST (in), 19 CK (in), 21 RTCXTI (in), 22 RTCXTO, 23 ~{STDBY} (io), 24 ~{RSTIN} (in)
part C pins: 10 JTDI (in), 11 JTMS (in), 12 JTCK (in), 13 JTDO (out), 14 ~{JTRST} (in)
part D pins: 4 VSS (power), 8 VSS (power), 9 V33 (power), 17 V33IO-PLL (power), 18 VSSIO-PLL (power), 25 VSSBKP (power), 26 V18BKP (power), 27 V18 (power), 28 VSS18 (power), 29 AVDD (power), 30 AVSS (power), 38 V33IO-PLL (power), 39 VSSIO-PLL (power), 44 VSS (power), 50 VSS (power), 51 V33 (power), 57 VSS18 (power), 58 V18 (power), 59 VSS (power)

## STR712FR2H6
designator U?
ARM7TDMI-S 32-Bit RISC CPU, 256+16KB Flash Memory, 64KB RAM, 64-ball LFBGA, with CAN Peripherals; Published: 12-Dec-2006; DatasheetVersion: rev9, Aug-2006; PackageVersion: Sep-2006; PackageReference: LFBGA64; Publisher: Altium Limited; PackageDescription: 64-Ball Low Profile Fine Pitch Ball Grid Array; ComponentLink1Description: Manufacturer Link; ComponentLink1URL: http://www.st.com/; ComponentLink2Description: Datasheet; ComponentLink2URL: http://www.st.com/stonline/books/pdf/docs/10350.pdf
footprint LFBGA64 (BGA, 64-Leads, Body 8x8mm, Pitch 0.8mm)
part A pins: A1 P0.10/U1.RX/U1.TX/SC.DATA (io), A2 P0.9/U0.TX/BOOT.0 (io), A3 P0.5/S1.MOSI (io), A5 P0.2/S0.SCLK/I1.SCL (io), A8 P1.15/HTXD (io), B1 P0.11/U1.TX/BOOT.1 (io), B3 P0.7/S1.~{SS} (io), B5 P0.4/S1.MISO (io), B6 P0.1/S0.MOSI/U3.RX (io), B7 P0.0/S0.MISO/U3.TX (io), B8 P1.14/HRXD/I0.SDA (io), C1 P0.12/SC.CLK (io), C2 P0.13/U2.RX/T2.OCMPA (io), C4 P0.8/U0.RX/U0.TX (io), C6 P0.3/S0.~{SS}/I1.SDA (io), C7 P1.10/USBCLK (io), D1 P0.14/U2.TX/T2.ICAPA (io), D5 P0.6/S1.SCLK (io), D6 P1.13/HCLK/I0.SCL (io), D7 P1.12/CANTX (io), D8 P1.8 (io), E5 P1.9 (io), E6 P1.11/CANRX (io), E7 P1.7/T1.OCMPA (io), F5 P1.0/T3.OCMPB/AIN.0 (io), F7 P1.6/T1.OCMPB (io), F8 P1.4/T1.ICAPA/T1.EXTCLK (io), G2 P0.15/WAKEUP (io), G7 P1.5/T1.ICAPB (io), G8 P1.3/T3.ICAPB/AIN.3 (io), H7 P1.1/T3.ICAPA/TC.EXTCLK/AIN.1 (io), H8 P1.2/T3.OCMPA/AIN.2 (io)
part B pins: C3 BOOTEN (in), E3 NU, F3 ~{STDBY} (io), G1 TEST (in), G3 RTCXTI (in), G4 ~{RSTIN} (in), H3 CK (in), H4 RTCXTO
part C pins: D3 JTDI (in), D4 JTDO (out), E2 JTMS (in), F1 JTCK (in), F2 ~{JTRST} (in)
part D pins: A4 VSS18 (power), A6 V33 (power), A7 VSS (power), B2 VSS (power), B4 VSS (power), C5 V18 (power), C8 VSS (power), D2 VSS (power), E1 V33 (power), E4 AVDD (power), E8 V33IO-PLL (power), F4 V18BKP (power), F6 VSSIO-PLL (power), G5 V18 (power), G6 AVSS (power), H1 V33IO-PLL (power), H2 VSSIO-PLL (power), H5 VSSBKP (power), H6 VSS18 (power)

## STR712FR2T6
designator U?
ARM7TDMI-S 32-Bit RISC CPU, 256+16KB Flash Memory, 64KB RAM, 64-pin LQFP, with CAN Peripherals; Published: 12-Dec-2006; DatasheetVersion: rev9, Aug-2006; PackageVersion: Jun-2003; PackageReference: TQFP64; Publisher: Altium Limited; PackageDescription: 64-Pin Thin Quad Flat Pack 0.5 mm Pitch; Code_JEDEC: MS-026; ComponentLink1Description: Manufacturer Link; ComponentLink1URL: http://www.st.com/; ComponentLink2Description: Datasheet; ComponentLink2URL: http://www.st.com/stonline/books/pdf/docs/10350.pdf
footprint TQFP64_N (Thin QFP, 64-Leads, Body 10x10mm, Pitch 0.5mm, IPC Medium Density)
footprint TQFP64_L (Thin QFP, 64-Leads, Body 10x10mm, Pitch 0.5mm, IPC High Density)
footprint TQFP64_M (Thin QFP, 64-Leads, Body 10x10mm, Pitch 0.5mm, IPC Low Density)
part A pins: 1 P0.10/U1.RX/U1.TX/SC.DATA (io), 2 P0.11/U1.TX/BOOT.1 (io), 3 P0.12/SC.CLK (io), 5 P0.13/U2.RX/T2.OCMPA (io), 6 P0.14/U2.TX/T2.ICAPA (io), 20 P0.15/WAKEUP (io), 31 P1.0/T3.OCMPB/AIN.0 (io), 32 P1.1/T3.ICAPA/AIN.1 (io), 33 P1.2/T3.OCMPA/AIN.2 (io), 34 P1.3/T3.ICAPB/AIN.3 (io), 35 P1.4/T1.ICAPA (io), 36 P1.5/T1.ICAPB (io), 37 P1.6/T1.OCMPB (io), 40 P1.7/T1.OCMPA (io), 41 P1.8 (io), 42 P1.11/CANRX (io), 43 P1.12/CANTX (io), 45 P1.9 (io), 46 P1.10 (io), 47 P1.13/HCLK/I0.SCL (io), 48 P1.14/HRXD/I0.SDA (io), 49 P1.15/HTXD (io), 52 P0.0/S0.MISO/U3.TX (io), 53 P0.1/S0.MOSI/U3.RX (io), 54 P0.2/S0.SCLK/I1.SCL (io), 55 P0.3/S0.~{SS}/I1.SDA (io), 56 P0.4/S1.MISO (io), 60 P0.5/S1.MOSI (io), 61 P0.6/S1.SCLK (io), 62 P0.7/S1.~{SS} (io), 63 P0.8/U0.RX/U0.TX (io), 64 P0.9/U0.TX/BOOT.0 (io)
part B pins: 7 BOOTEN (in), 15 NU, 16 TEST (in), 19 CK (in), 21 RTCXTI (in), 22 RTCXTO, 23 ~{STDBY} (io), 24 ~{RSTIN} (in)
part C pins: 10 JTDI (in), 11 JTMS (in), 12 JTCK (in), 13 JTDO (out), 14 ~{JTRST} (in)
part D pins: 4 VSS (power), 8 VSS (power), 9 V33 (power), 17 V33IO-PLL (power), 18 VSSIO-PLL (power), 25 VSSBKP (power), 26 V18BKP (power), 27 V18 (power), 28 VSS18 (power), 29 AVDD (power), 30 AVSS (power), 38 V33IO-PLL (power), 39 VSSIO-PLL (power), 44 VSS (power), 50 VSS (power), 51 V33 (power), 57 VSS18 (power), 58 V18 (power), 59 VSS (power)

## STR715FR0H6
designator U?
ARM7TDMI-S 32-Bit RISC CPU, 64+16KB Flash Memory, 16KB RAM, 64-ball LFBGA; Published: 12-Dec-2006; DatasheetVersion: rev9, Aug-2006; PackageVersion: Sep-2006; PackageReference: LFBGA64; Publisher: Altium Limited; PackageDescription: 64-Ball Low Profile Fine Pitch Ball Grid Array; ComponentLink1Description: Manufacturer Link; ComponentLink1URL: http://www.st.com/; ComponentLink2Description: Datasheet; ComponentLink2URL: http://www.st.com/stonline/books/pdf/docs/10350.pdf
footprint LFBGA64 (BGA, 64-Leads, Body 8x8mm, Pitch 0.8mm)
part A pins: A1 P0.10/U1.RX/U1.TX/SC.DATA (io), A2 P0.9/U0.TX/BOOT.0 (io), A3 P0.5/S1.MOSI (io), A5 P0.2/S0.SCLK/I1.SCL (io), A8 P1.15/HTXD (io), B1 P0.11/U1.TX/BOOT.1 (io), B3 P0.7/S1.~{SS} (io), B5 P0.4/S1.MISO (io), B6 P0.1/S0.MOSI/U3.RX (io), B7 P0.0/S0.MISO/U3.TX (io), B8 P1.14/HRXD/I0.SDA (io), C1 P0.12/SC.CLK (io), C2 P0.13/U2.RX/T2.OCMPA (io), C4 P0.8/U0.RX/U0.TX (io), C6 P0.3/S0.~{SS}/I1.SDA (io), C7 P1.10/USBCLK (io), D1 P0.14/U2.TX/T2.ICAPA (io), D5 P0.6/S1.SCLK (io), D6 P1.13/HCLK/I0.SCL (io), D7 P1.12 (io), D8 P1.8 (io), E5 P1.9 (io), E6 P1.11 (io), E7 P1.7/T1.OCMPA (io), F5 P1.0/T3.OCMPB/AIN.0 (io), F7 P1.6/T1.OCMPB (io), F8 P1.4/T1.ICAPA/T1.EXTCLK (io), G2 P0.15/WAKEUP (io), G7 P1.5/T1.ICAPB (io), G8 P1.3/T3.ICAPB/AIN.3 (io), H7 P1.1/T3.ICAPA/TC.EXTCLK/AIN.1 (io), H8 P1.2/T3.OCMPA/AIN.2 (io)
part B pins: C3 BOOTEN (in), E3 NU, F3 ~{STDBY} (io), G1 TEST (in), G3 RTCXTI (in), G4 ~{RSTIN} (in), H3 CK (in), H4 RTCXTO
part C pins: D3 JTDI (in), D4 JTDO (out), E2 JTMS (in), F1 JTCK (in), F2 ~{JTRST} (in)
part D pins: A4 VSS18 (power), A6 V33 (power), A7 VSS (power), B2 VSS (power), B4 VSS (power), C5 V18 (power), C8 VSS (power), D2 VSS (power), E1 V33 (power), E4 AVDD (power), E8 V33IO-PLL (power), F4 V18BKP (power), F6 VSSIO-PLL (power), G5 V18 (power), G6 AVSS (power), H1 V33IO-PLL (power), H2 VSSIO-PLL (power), H5 VSSBKP (power), H6 VSS18 (power)

## STR715FR0T1
designator U?
ARM7TDMI-S 32-Bit RISC CPU, 64+16KB Flash Memory, 16KB RAM, 64-pin LQFP; Published: 12-Dec-2006; DatasheetVersion: rev9, Aug-2006; PackageVersion: Jun-2003; PackageReference: TQFP64; Publisher: Altium Limited; PackageDescription: 64-Pin Thin Quad Flat Pack 0.5 mm Pitch; Code_JEDEC: MS-026; ComponentLink1Description: Manufacturer Link; ComponentLink1URL: http://www.st.com/; ComponentLink2Description: Datasheet; ComponentLink2URL: http://www.st.com/stonline/books/pdf/docs/10350.pdf
footprint TQFP64_N (Thin QFP, 64-Leads, Body 10x10mm, Pitch 0.5mm, IPC Medium Density)
footprint TQFP64_L (Thin QFP, 64-Leads, Body 10x10mm, Pitch 0.5mm, IPC High Density)
footprint TQFP64_M (Thin QFP, 64-Leads, Body 10x10mm, Pitch 0.5mm, IPC Low Density)
part A pins: 1 P0.10/U1.RX/U1.TX/SC.DATA (io), 2 P0.11/U1.TX/BOOT.1 (io), 3 P0.12/SC.CLK (io), 5 P0.13/U2.RX/T2.OCMPA (io), 6 P0.14/U2.TX/T2.ICAPA (io), 20 P0.15/WAKEUP (io), 31 P1.0/T3.OCMPB/AIN.0 (io), 32 P1.1/T3.ICAPA/AIN.1 (io), 33 P1.2/T3.OCMPA/AIN.2 (io), 34 P1.3/T3.ICAPB/AIN.3 (io), 35 P1.4/T1.ICAPA (io), 36 P1.5/T1.ICAPB (io), 37 P1.6/T1.OCMPB (io), 40 P1.7/T1.OCMPA (io), 41 P1.8 (io), 42 P1.11 (io), 43 P1.12 (io), 45 P1.9 (io), 46 P1.10 (io), 47 P1.13/HCLK/I0.SCL (io), 48 P1.14/HRXD/I0.SDA (io), 49 P1.15/HTXD (io), 52 P0.0/S0.MISO/U3.TX (io), 53 P0.1/S0.MOSI/U3.RX (io), 54 P0.2/S0.SCLK/I1.SCL (io), 55 P0.3/S0.~{SS}/I1.SDA (io), 56 P0.4/S1.MISO (io), 60 P0.5/S1.MOSI (io), 61 P0.6/S1.SCLK (io), 62 P0.7/S1.~{SS} (io), 63 P0.8/U0.RX/U0.TX (io), 64 P0.9/U0.TX/BOOT.0 (io)
part B pins: 7 BOOTEN (in), 15 NU, 16 TEST (in), 19 CK (in), 21 RTCXTI (in), 22 RTCXTO, 23 ~{STDBY} (io), 24 ~{RSTIN} (in)
part C pins: 10 JTDI (in), 11 JTMS (in), 12 JTCK (in), 13 JTDO (out), 14 ~{JTRST} (in)
part D pins: 4 VSS (power), 8 VSS (power), 9 V33 (power), 17 V33IO-PLL (power), 18 VSSIO-PLL (power), 25 VSSBKP (power), 26 V18BKP (power), 27 V18 (power), 28 VSS18 (power), 29 AVDD (power), 30 AVSS (power), 38 V33IO-PLL (power), 39 VSSIO-PLL (power), 44 VSS (power), 50 VSS (power), 51 V33 (power), 57 VSS18 (power), 58 V18 (power), 59 VSS (power)

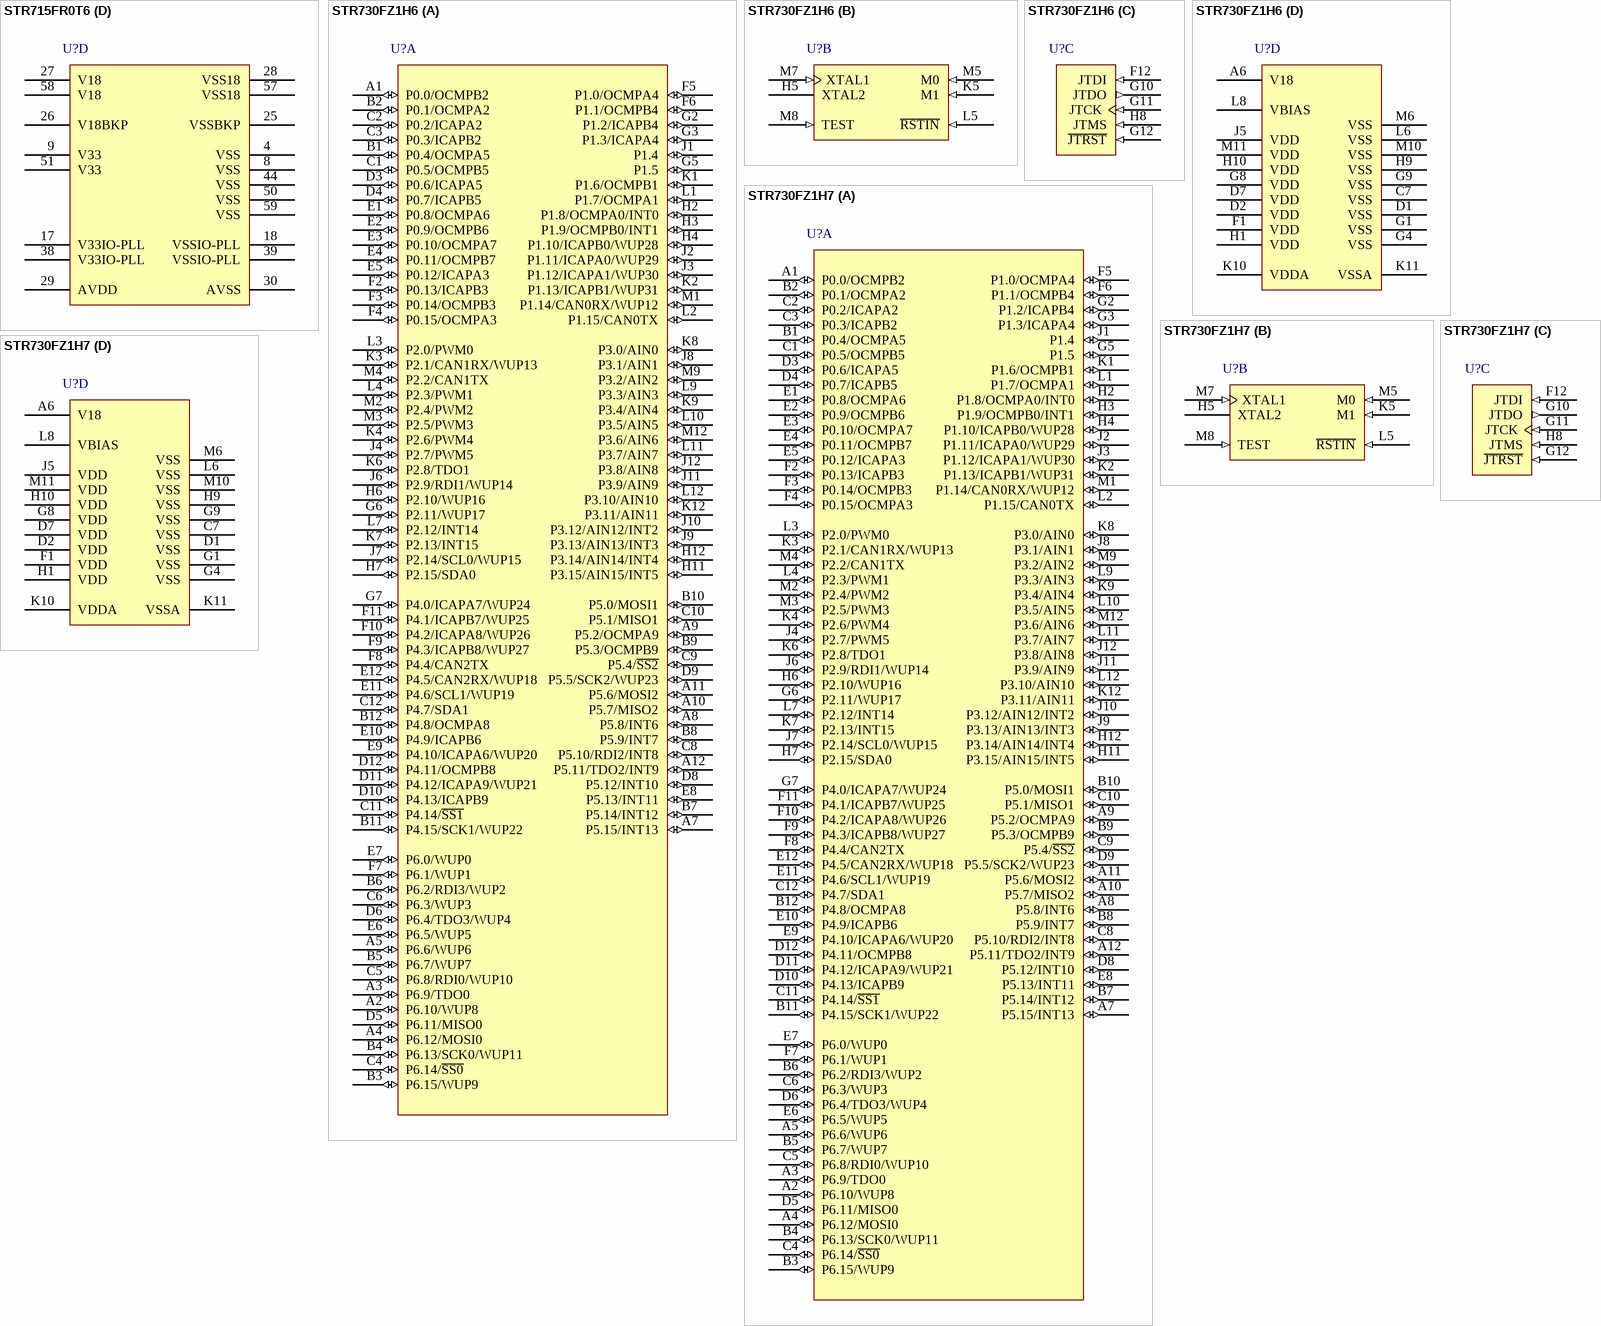
[diagram p5: symbols STR715FR0T6 to STR730FZ1H7]